# Altium integrated library Altera MAX V.IntLib: 184 symbols (part 4 of 16)
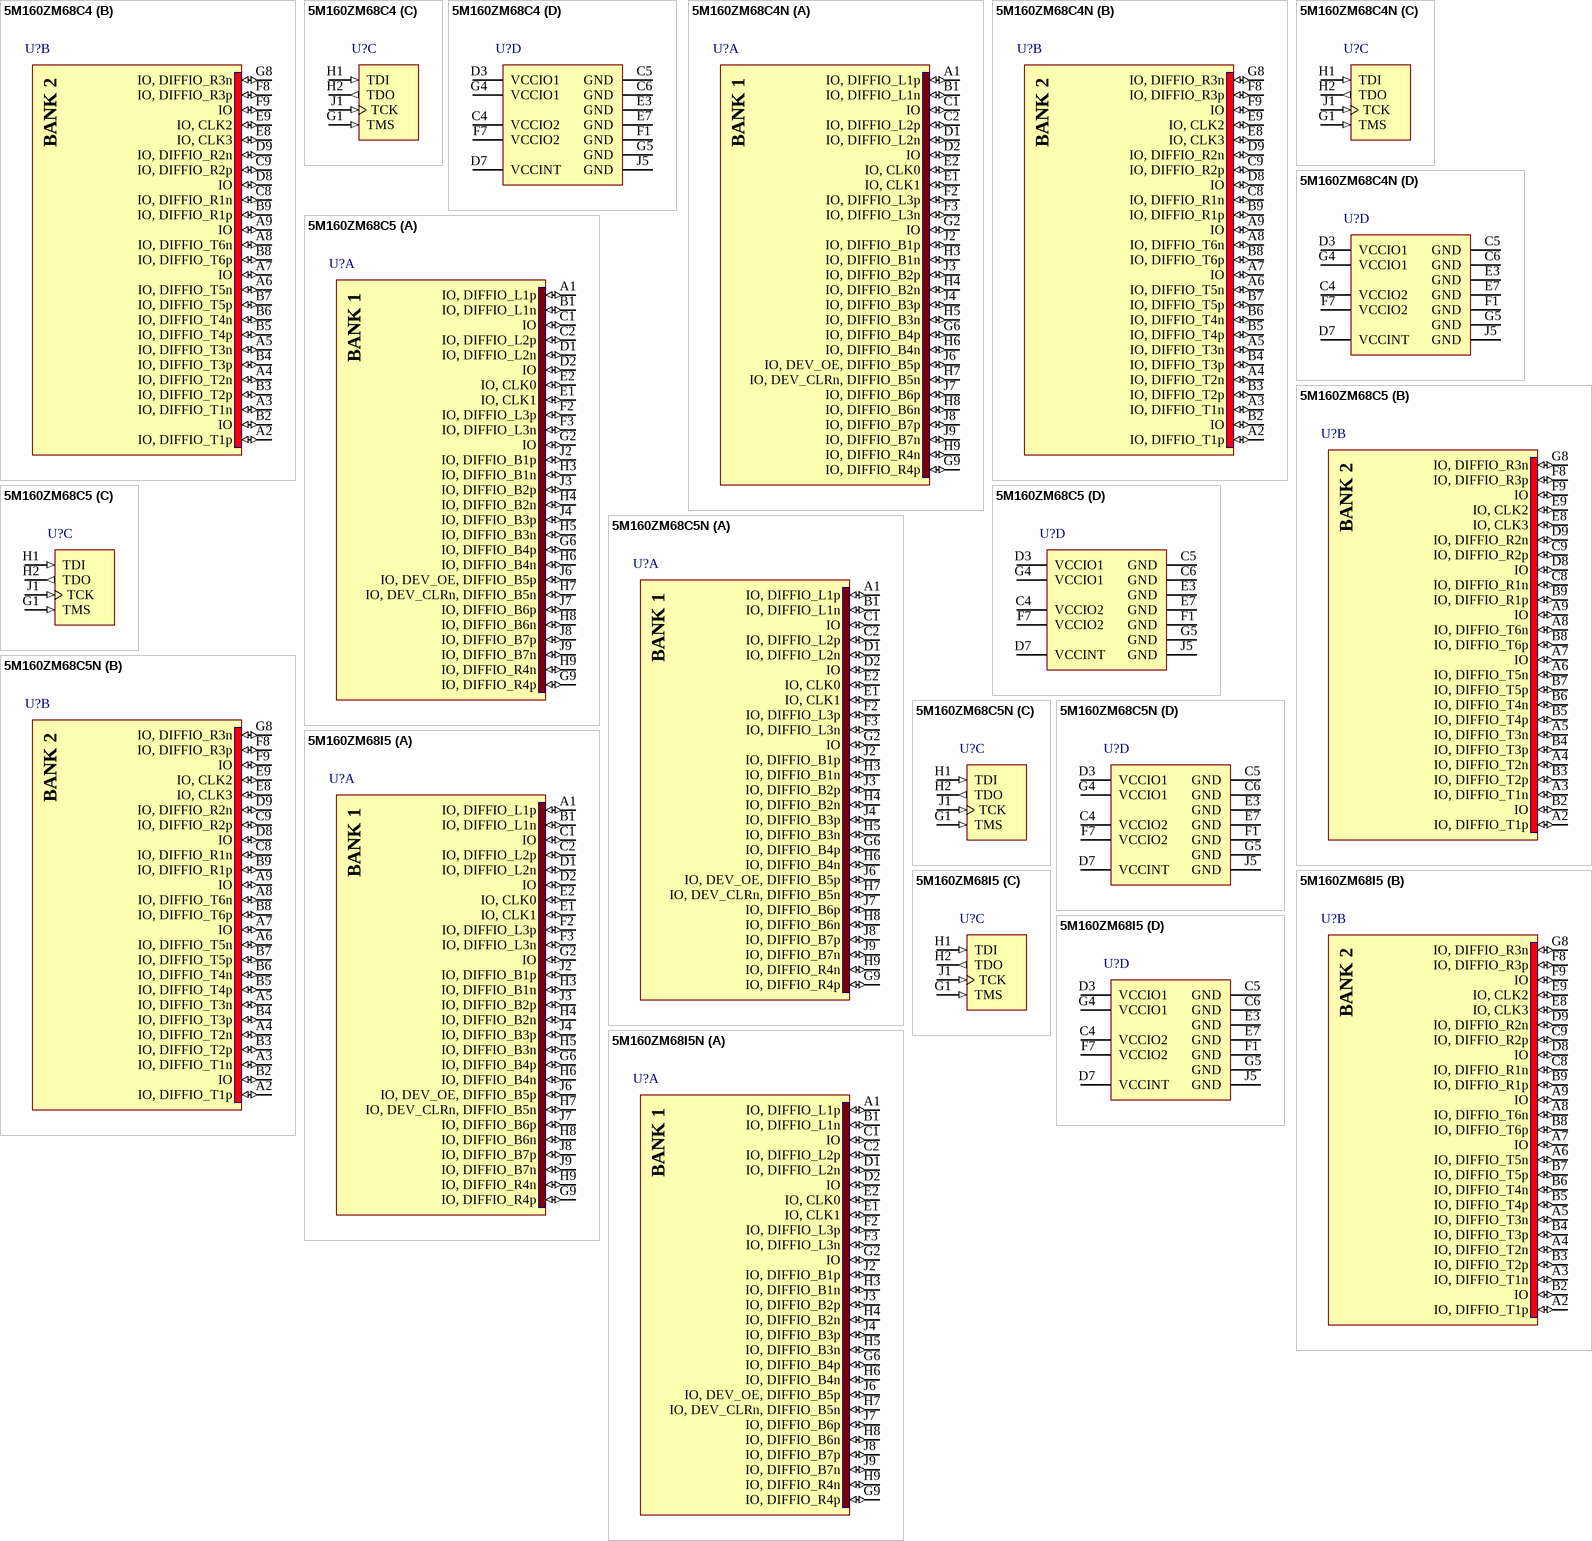
[diagram p80: symbols 5M160ZM68C4 to 5M160ZM68I5N]

## 5M160ZM68C4
designator U?
MAX V 1.8V CPLD, 52 IOs, 160 Logic Elements, 68-Pin MBGA, Commercial Temperature, Speed Grade 4; DatasheetVersion: ver1.2, May-2011; PackageVersion: ver1.0, Jul-2011; PackageReference: MBGA68_A-120; PackageDescription: 68-Pin Micro FineLine Ball-Grid Array (MBGA) - Wire Bond - A:1.20; Code_JEDEC: MO-195-AB; ComponentLink1Description: Manufacturer URL; ComponentLink1URL: http://www.altera.com/; ComponentLink2Description: Datasheet; ComponentLink2URL: http://www.altera.com/literature/hb/max-v/max5_handbook.pdf; ComponentLink3Description: MAX V Device Pin-Out files; ComponentLink3URL: http://www.altera.com/literature/lit-dp.jsp?category=MAX%205&showspreadsheet=y; ComponentLink4Description: Package Specification; ComponentLink4URL: http://www.altera.com/devicepackaging/04R00344-01.pdf
footprint MBGA68_A-120 (BGA, 68-Leads, Body 5x5mm, Pitch 0.5mm, Non-Solder Mask Defined Pads)
part A pins: A1 IO, DIFFIO_L1p (io), B1 IO, DIFFIO_L1n (io), C1 IO (io), C2 IO, DIFFIO_L2p (io), D1 IO, DIFFIO_L2n (io), D2 IO (io), E1 IO, CLK1 (io), E2 IO, CLK0 (io), F2 IO, DIFFIO_L3p (io), F3 IO, DIFFIO_L3n (io), G2 IO (io), G6 IO, DIFFIO_B4p (io), G9 IO, DIFFIO_R4p (io), H3 IO, DIFFIO_B1n (io), H4 IO, DIFFIO_B2n (io), H5 IO, DIFFIO_B3n (io), H6 IO, DIFFIO_B4n (io), H7 IO, DEV_CLRn, DIFFIO_B5n (io), H8 IO, DIFFIO_B6n (io), H9 IO, DIFFIO_R4n (io), J2 IO, DIFFIO_B1p (io), J3 IO, DIFFIO_B2p (io), J4 IO, DIFFIO_B3p (io), J6 IO, DEV_OE, DIFFIO_B5p (io), J7 IO, DIFFIO_B6p (io), J8 IO, DIFFIO_B7p (io), J9 IO, DIFFIO_B7n (io)
part B pins: A2 IO, DIFFIO_T1p (io), A3 IO, DIFFIO_T1n (io), A4 IO, DIFFIO_T2n (io), A5 IO, DIFFIO_T3n (io), A6 IO, DIFFIO_T5n (io), A7 IO (io), A8 IO, DIFFIO_T6n (io), A9 IO (io), B2 IO (io), B3 IO, DIFFIO_T2p (io), B4 IO, DIFFIO_T3p (io), B5 IO, DIFFIO_T4p (io), B6 IO, DIFFIO_T4n (io), B7 IO, DIFFIO_T5p (io), B8 IO, DIFFIO_T6p (io), B9 IO, DIFFIO_R1p (io), C8 IO, DIFFIO_R1n (io), C9 IO, DIFFIO_R2p (io), D8 IO (io), D9 IO, DIFFIO_R2n (io), E8 IO, CLK3 (io), E9 IO, CLK2 (io), F8 IO, DIFFIO_R3p (io), F9 IO (io), G8 IO, DIFFIO_R3n (io)
part C pins: G1 TMS (in), H1 TDI (in), H2 TDO (out), J1 TCK (in)
part D pins: C4 VCCIO2 (power), C5 GND (power), C6 GND (power), D3 VCCIO1 (power), D7 VCCINT (power), E3 GND (power), E7 GND (power), F1 GND (power), F7 VCCIO2 (power), G4 VCCIO1 (power), G5 GND (power), J5 GND (power)
part A text: BANK 1
part B text: BANK 2

## 5M160ZM68C4N
designator U?
MAX V 1.8V CPLD, 52 IOs, 160 Logic Elements, 68-Pin MBGA, Commercial Temperature, Speed Grade 4, Pb-Free; DatasheetVersion: ver1.2, May-2011; PackageVersion: ver1.0, Jul-2011; PackageReference: MBGA68_A-120; PackageDescription: 68-Pin Micro FineLine Ball-Grid Array (MBGA) - Wire Bond - A:1.20; Code_JEDEC: MO-195-AB; ComponentLink1Description: Manufacturer URL; ComponentLink1URL: http://www.altera.com/; ComponentLink2Description: Datasheet; ComponentLink2URL: http://www.altera.com/literature/hb/max-v/max5_handbook.pdf; ComponentLink3Description: MAX V Device Pin-Out files; ComponentLink3URL: http://www.altera.com/literature/lit-dp.jsp?category=MAX%205&showspreadsheet=y; ComponentLink4Description: Package Specification; ComponentLink4URL: http://www.altera.com/devicepackaging/04R00344-01.pdf
footprint MBGA68_A-120 (BGA, 68-Leads, Body 5x5mm, Pitch 0.5mm, Non-Solder Mask Defined Pads)
part A pins: A1 IO, DIFFIO_L1p (io), B1 IO, DIFFIO_L1n (io), C1 IO (io), C2 IO, DIFFIO_L2p (io), D1 IO, DIFFIO_L2n (io), D2 IO (io), E1 IO, CLK1 (io), E2 IO, CLK0 (io), F2 IO, DIFFIO_L3p (io), F3 IO, DIFFIO_L3n (io), G2 IO (io), G6 IO, DIFFIO_B4p (io), G9 IO, DIFFIO_R4p (io), H3 IO, DIFFIO_B1n (io), H4 IO, DIFFIO_B2n (io), H5 IO, DIFFIO_B3n (io), H6 IO, DIFFIO_B4n (io), H7 IO, DEV_CLRn, DIFFIO_B5n (io), H8 IO, DIFFIO_B6n (io), H9 IO, DIFFIO_R4n (io), J2 IO, DIFFIO_B1p (io), J3 IO, DIFFIO_B2p (io), J4 IO, DIFFIO_B3p (io), J6 IO, DEV_OE, DIFFIO_B5p (io), J7 IO, DIFFIO_B6p (io), J8 IO, DIFFIO_B7p (io), J9 IO, DIFFIO_B7n (io)
part B pins: A2 IO, DIFFIO_T1p (io), A3 IO, DIFFIO_T1n (io), A4 IO, DIFFIO_T2n (io), A5 IO, DIFFIO_T3n (io), A6 IO, DIFFIO_T5n (io), A7 IO (io), A8 IO, DIFFIO_T6n (io), A9 IO (io), B2 IO (io), B3 IO, DIFFIO_T2p (io), B4 IO, DIFFIO_T3p (io), B5 IO, DIFFIO_T4p (io), B6 IO, DIFFIO_T4n (io), B7 IO, DIFFIO_T5p (io), B8 IO, DIFFIO_T6p (io), B9 IO, DIFFIO_R1p (io), C8 IO, DIFFIO_R1n (io), C9 IO, DIFFIO_R2p (io), D8 IO (io), D9 IO, DIFFIO_R2n (io), E8 IO, CLK3 (io), E9 IO, CLK2 (io), F8 IO, DIFFIO_R3p (io), F9 IO (io), G8 IO, DIFFIO_R3n (io)
part C pins: G1 TMS (in), H1 TDI (in), H2 TDO (out), J1 TCK (in)
part D pins: C4 VCCIO2 (power), C5 GND (power), C6 GND (power), D3 VCCIO1 (power), D7 VCCINT (power), E3 GND (power), E7 GND (power), F1 GND (power), F7 VCCIO2 (power), G4 VCCIO1 (power), G5 GND (power), J5 GND (power)
part A text: BANK 1
part B text: BANK 2

## 5M160ZM68C5
designator U?
MAX V 1.8V CPLD, 52 IOs, 160 Logic Elements, 68-Pin MBGA, Commercial Temperature, Speed Grade 5; DatasheetVersion: ver1.2, May-2011; PackageVersion: ver1.0, Jul-2011; PackageReference: MBGA68_A-120; PackageDescription: 68-Pin Micro FineLine Ball-Grid Array (MBGA) - Wire Bond - A:1.20; Code_JEDEC: MO-195-AB; ComponentLink1Description: Manufacturer URL; ComponentLink1URL: http://www.altera.com/; ComponentLink2Description: Datasheet; ComponentLink2URL: http://www.altera.com/literature/hb/max-v/max5_handbook.pdf; ComponentLink3Description: MAX V Device Pin-Out files; ComponentLink3URL: http://www.altera.com/literature/lit-dp.jsp?category=MAX%205&showspreadsheet=y; ComponentLink4Description: Package Specification; ComponentLink4URL: http://www.altera.com/devicepackaging/04R00344-01.pdf
footprint MBGA68_A-120 (BGA, 68-Leads, Body 5x5mm, Pitch 0.5mm, Non-Solder Mask Defined Pads)
part A pins: A1 IO, DIFFIO_L1p (io), B1 IO, DIFFIO_L1n (io), C1 IO (io), C2 IO, DIFFIO_L2p (io), D1 IO, DIFFIO_L2n (io), D2 IO (io), E1 IO, CLK1 (io), E2 IO, CLK0 (io), F2 IO, DIFFIO_L3p (io), F3 IO, DIFFIO_L3n (io), G2 IO (io), G6 IO, DIFFIO_B4p (io), G9 IO, DIFFIO_R4p (io), H3 IO, DIFFIO_B1n (io), H4 IO, DIFFIO_B2n (io), H5 IO, DIFFIO_B3n (io), H6 IO, DIFFIO_B4n (io), H7 IO, DEV_CLRn, DIFFIO_B5n (io), H8 IO, DIFFIO_B6n (io), H9 IO, DIFFIO_R4n (io), J2 IO, DIFFIO_B1p (io), J3 IO, DIFFIO_B2p (io), J4 IO, DIFFIO_B3p (io), J6 IO, DEV_OE, DIFFIO_B5p (io), J7 IO, DIFFIO_B6p (io), J8 IO, DIFFIO_B7p (io), J9 IO, DIFFIO_B7n (io)
part B pins: A2 IO, DIFFIO_T1p (io), A3 IO, DIFFIO_T1n (io), A4 IO, DIFFIO_T2n (io), A5 IO, DIFFIO_T3n (io), A6 IO, DIFFIO_T5n (io), A7 IO (io), A8 IO, DIFFIO_T6n (io), A9 IO (io), B2 IO (io), B3 IO, DIFFIO_T2p (io), B4 IO, DIFFIO_T3p (io), B5 IO, DIFFIO_T4p (io), B6 IO, DIFFIO_T4n (io), B7 IO, DIFFIO_T5p (io), B8 IO, DIFFIO_T6p (io), B9 IO, DIFFIO_R1p (io), C8 IO, DIFFIO_R1n (io), C9 IO, DIFFIO_R2p (io), D8 IO (io), D9 IO, DIFFIO_R2n (io), E8 IO, CLK3 (io), E9 IO, CLK2 (io), F8 IO, DIFFIO_R3p (io), F9 IO (io), G8 IO, DIFFIO_R3n (io)
part C pins: G1 TMS (in), H1 TDI (in), H2 TDO (out), J1 TCK (in)
part D pins: C4 VCCIO2 (power), C5 GND (power), C6 GND (power), D3 VCCIO1 (power), D7 VCCINT (power), E3 GND (power), E7 GND (power), F1 GND (power), F7 VCCIO2 (power), G4 VCCIO1 (power), G5 GND (power), J5 GND (power)
part A text: BANK 1
part B text: BANK 2

## 5M160ZM68C5N
designator U?
MAX V 1.8V CPLD, 52 IOs, 160 Logic Elements, 68-Pin MBGA, Commercial Temperature, Speed Grade 5, Pb-Free; DatasheetVersion: ver1.2, May-2011; PackageVersion: ver1.0, Jul-2011; PackageReference: MBGA68_A-120; PackageDescription: 68-Pin Micro FineLine Ball-Grid Array (MBGA) - Wire Bond - A:1.20; Code_JEDEC: MO-195-AB; ComponentLink1Description: Manufacturer URL; ComponentLink1URL: http://www.altera.com/; ComponentLink2Description: Datasheet; ComponentLink2URL: http://www.altera.com/literature/hb/max-v/max5_handbook.pdf; ComponentLink3Description: MAX V Device Pin-Out files; ComponentLink3URL: http://www.altera.com/literature/lit-dp.jsp?category=MAX%205&showspreadsheet=y; ComponentLink4Description: Package Specification; ComponentLink4URL: http://www.altera.com/devicepackaging/04R00344-01.pdf
footprint MBGA68_A-120 (BGA, 68-Leads, Body 5x5mm, Pitch 0.5mm, Non-Solder Mask Defined Pads)
part A pins: A1 IO, DIFFIO_L1p (io), B1 IO, DIFFIO_L1n (io), C1 IO (io), C2 IO, DIFFIO_L2p (io), D1 IO, DIFFIO_L2n (io), D2 IO (io), E1 IO, CLK1 (io), E2 IO, CLK0 (io), F2 IO, DIFFIO_L3p (io), F3 IO, DIFFIO_L3n (io), G2 IO (io), G6 IO, DIFFIO_B4p (io), G9 IO, DIFFIO_R4p (io), H3 IO, DIFFIO_B1n (io), H4 IO, DIFFIO_B2n (io), H5 IO, DIFFIO_B3n (io), H6 IO, DIFFIO_B4n (io), H7 IO, DEV_CLRn, DIFFIO_B5n (io), H8 IO, DIFFIO_B6n (io), H9 IO, DIFFIO_R4n (io), J2 IO, DIFFIO_B1p (io), J3 IO, DIFFIO_B2p (io), J4 IO, DIFFIO_B3p (io), J6 IO, DEV_OE, DIFFIO_B5p (io), J7 IO, DIFFIO_B6p (io), J8 IO, DIFFIO_B7p (io), J9 IO, DIFFIO_B7n (io)
part B pins: A2 IO, DIFFIO_T1p (io), A3 IO, DIFFIO_T1n (io), A4 IO, DIFFIO_T2n (io), A5 IO, DIFFIO_T3n (io), A6 IO, DIFFIO_T5n (io), A7 IO (io), A8 IO, DIFFIO_T6n (io), A9 IO (io), B2 IO (io), B3 IO, DIFFIO_T2p (io), B4 IO, DIFFIO_T3p (io), B5 IO, DIFFIO_T4p (io), B6 IO, DIFFIO_T4n (io), B7 IO, DIFFIO_T5p (io), B8 IO, DIFFIO_T6p (io), B9 IO, DIFFIO_R1p (io), C8 IO, DIFFIO_R1n (io), C9 IO, DIFFIO_R2p (io), D8 IO (io), D9 IO, DIFFIO_R2n (io), E8 IO, CLK3 (io), E9 IO, CLK2 (io), F8 IO, DIFFIO_R3p (io), F9 IO (io), G8 IO, DIFFIO_R3n (io)
part C pins: G1 TMS (in), H1 TDI (in), H2 TDO (out), J1 TCK (in)
part D pins: C4 VCCIO2 (power), C5 GND (power), C6 GND (power), D3 VCCIO1 (power), D7 VCCINT (power), E3 GND (power), E7 GND (power), F1 GND (power), F7 VCCIO2 (power), G4 VCCIO1 (power), G5 GND (power), J5 GND (power)
part A text: BANK 1
part B text: BANK 2

## 5M160ZM68I5
designator U?
MAX V 1.8V CPLD, 52 IOs, 160 Logic Elements, 68-Pin MBGA, Industrial Temperature, Speed Grade 5; DatasheetVersion: ver1.2, May-2011; PackageVersion: ver1.0, Jul-2011; PackageReference: MBGA68_A-120; PackageDescription: 68-Pin Micro FineLine Ball-Grid Array (MBGA) - Wire Bond - A:1.20; Code_JEDEC: MO-195-AB; ComponentLink1Description: Manufacturer URL; ComponentLink1URL: http://www.altera.com/; ComponentLink2Description: Datasheet; ComponentLink2URL: http://www.altera.com/literature/hb/max-v/max5_handbook.pdf; ComponentLink3Description: MAX V Device Pin-Out files; ComponentLink3URL: http://www.altera.com/literature/lit-dp.jsp?category=MAX%205&showspreadsheet=y; ComponentLink4Description: Package Specification; ComponentLink4URL: http://www.altera.com/devicepackaging/04R00344-01.pdf
footprint MBGA68_A-120 (BGA, 68-Leads, Body 5x5mm, Pitch 0.5mm, Non-Solder Mask Defined Pads)
part A pins: A1 IO, DIFFIO_L1p (io), B1 IO, DIFFIO_L1n (io), C1 IO (io), C2 IO, DIFFIO_L2p (io), D1 IO, DIFFIO_L2n (io), D2 IO (io), E1 IO, CLK1 (io), E2 IO, CLK0 (io), F2 IO, DIFFIO_L3p (io), F3 IO, DIFFIO_L3n (io), G2 IO (io), G6 IO, DIFFIO_B4p (io), G9 IO, DIFFIO_R4p (io), H3 IO, DIFFIO_B1n (io), H4 IO, DIFFIO_B2n (io), H5 IO, DIFFIO_B3n (io), H6 IO, DIFFIO_B4n (io), H7 IO, DEV_CLRn, DIFFIO_B5n (io), H8 IO, DIFFIO_B6n (io), H9 IO, DIFFIO_R4n (io), J2 IO, DIFFIO_B1p (io), J3 IO, DIFFIO_B2p (io), J4 IO, DIFFIO_B3p (io), J6 IO, DEV_OE, DIFFIO_B5p (io), J7 IO, DIFFIO_B6p (io), J8 IO, DIFFIO_B7p (io), J9 IO, DIFFIO_B7n (io)
part B pins: A2 IO, DIFFIO_T1p (io), A3 IO, DIFFIO_T1n (io), A4 IO, DIFFIO_T2n (io), A5 IO, DIFFIO_T3n (io), A6 IO, DIFFIO_T5n (io), A7 IO (io), A8 IO, DIFFIO_T6n (io), A9 IO (io), B2 IO (io), B3 IO, DIFFIO_T2p (io), B4 IO, DIFFIO_T3p (io), B5 IO, DIFFIO_T4p (io), B6 IO, DIFFIO_T4n (io), B7 IO, DIFFIO_T5p (io), B8 IO, DIFFIO_T6p (io), B9 IO, DIFFIO_R1p (io), C8 IO, DIFFIO_R1n (io), C9 IO, DIFFIO_R2p (io), D8 IO (io), D9 IO, DIFFIO_R2n (io), E8 IO, CLK3 (io), E9 IO, CLK2 (io), F8 IO, DIFFIO_R3p (io), F9 IO (io), G8 IO, DIFFIO_R3n (io)
part C pins: G1 TMS (in), H1 TDI (in), H2 TDO (out), J1 TCK (in)
part D pins: C4 VCCIO2 (power), C5 GND (power), C6 GND (power), D3 VCCIO1 (power), D7 VCCINT (power), E3 GND (power), E7 GND (power), F1 GND (power), F7 VCCIO2 (power), G4 VCCIO1 (power), G5 GND (power), J5 GND (power)
part A text: BANK 1
part B text: BANK 2

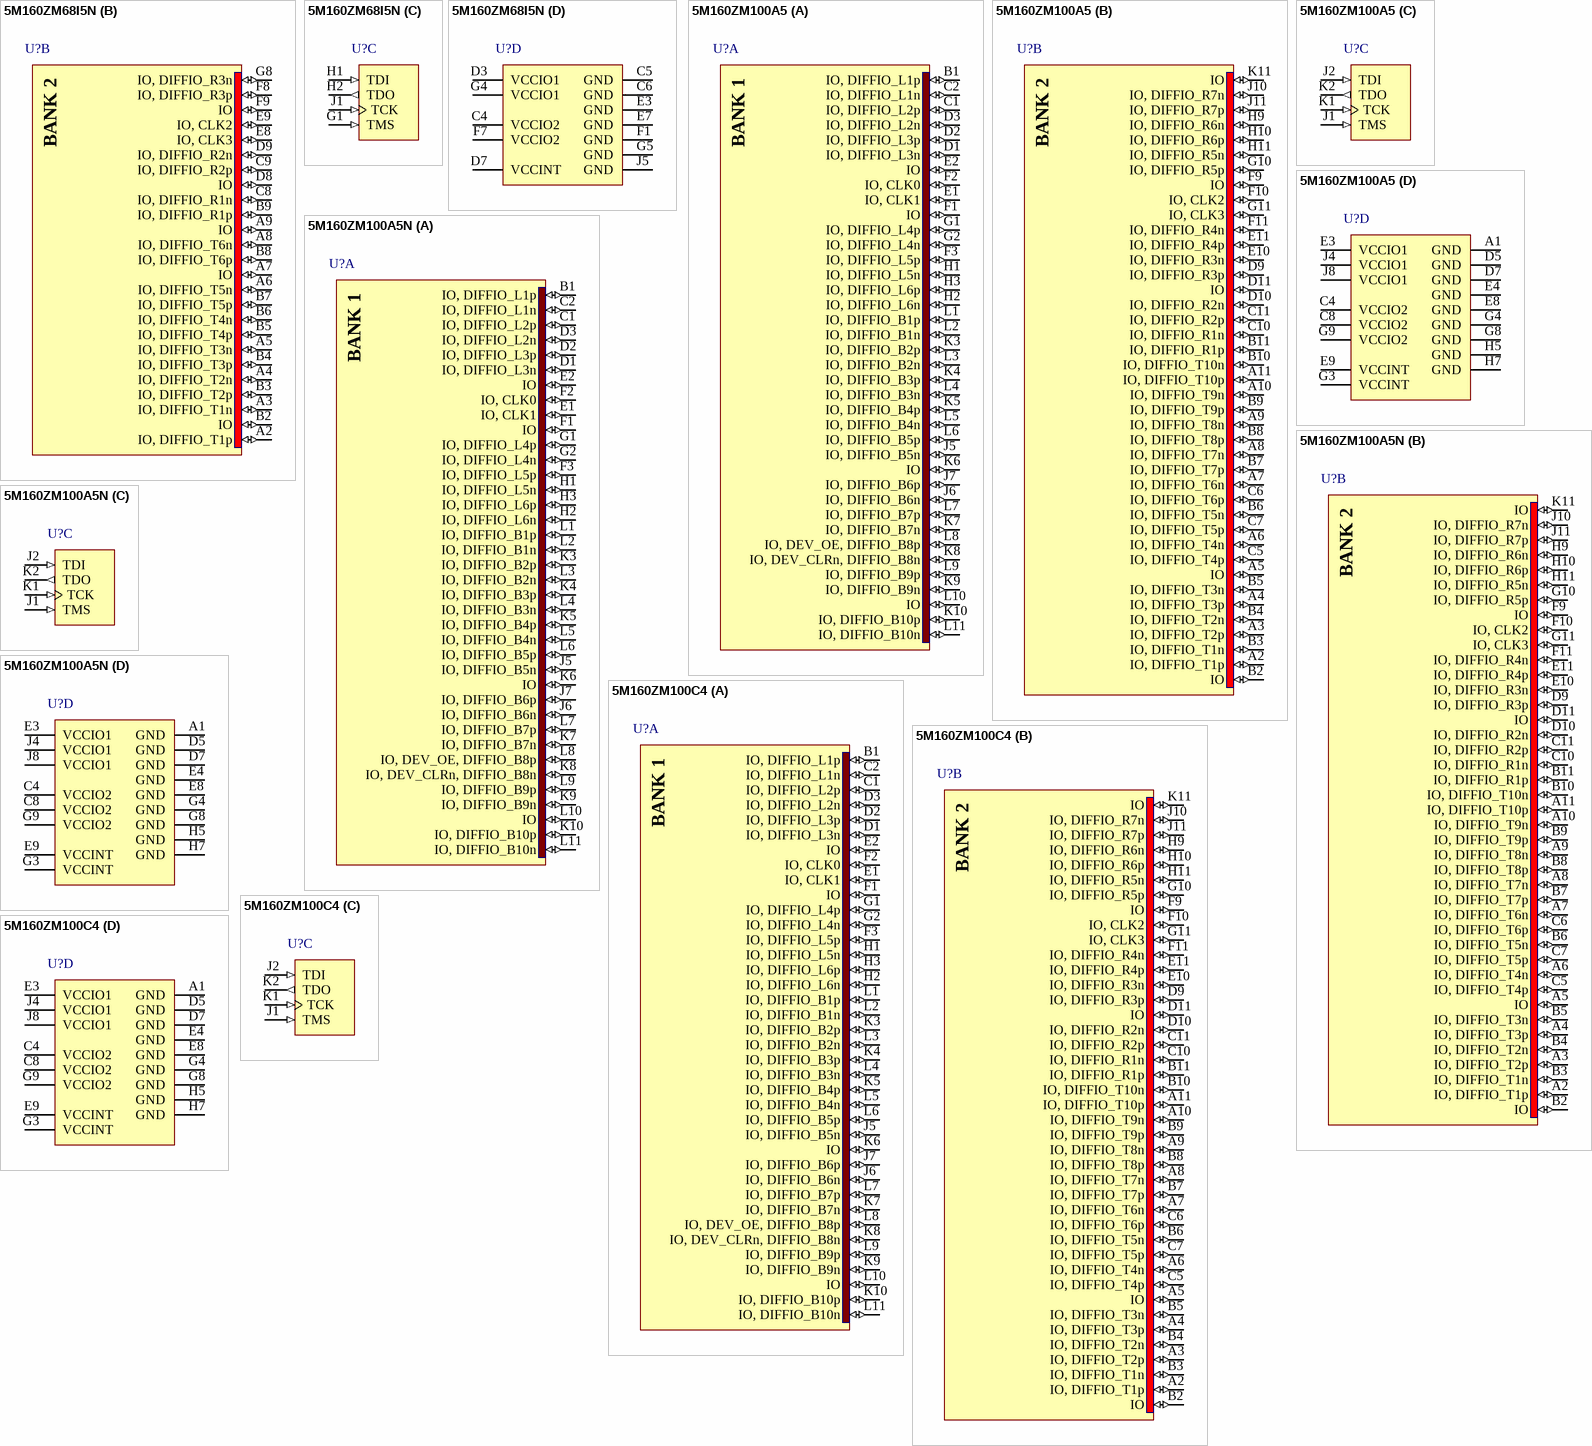
[diagram p14: symbols 5M160ZM68I5N to 5M160ZM100C4]

## 5M160ZM68I5N
designator U?
MAX V 1.8V CPLD, 52 IOs, 160 Logic Elements, 68-Pin MBGA, Industrial Temperature, Speed Grade 5, Pb-Free; DatasheetVersion: ver1.2, May-2011; PackageVersion: ver1.0, Jul-2011; PackageReference: MBGA68_A-120; PackageDescription: 68-Pin Micro FineLine Ball-Grid Array (MBGA) - Wire Bond - A:1.20; Code_JEDEC: MO-195-AB; ComponentLink1Description: Manufacturer URL; ComponentLink1URL: http://www.altera.com/; ComponentLink2Description: Datasheet; ComponentLink2URL: http://www.altera.com/literature/hb/max-v/max5_handbook.pdf; ComponentLink3Description: MAX V Device Pin-Out files; ComponentLink3URL: http://www.altera.com/literature/lit-dp.jsp?category=MAX%205&showspreadsheet=y; ComponentLink4Description: Package Specification; ComponentLink4URL: http://www.altera.com/devicepackaging/04R00344-01.pdf
footprint MBGA68_A-120 (BGA, 68-Leads, Body 5x5mm, Pitch 0.5mm, Non-Solder Mask Defined Pads)
part A pins: A1 IO, DIFFIO_L1p (io), B1 IO, DIFFIO_L1n (io), C1 IO (io), C2 IO, DIFFIO_L2p (io), D1 IO, DIFFIO_L2n (io), D2 IO (io), E1 IO, CLK1 (io), E2 IO, CLK0 (io), F2 IO, DIFFIO_L3p (io), F3 IO, DIFFIO_L3n (io), G2 IO (io), G6 IO, DIFFIO_B4p (io), G9 IO, DIFFIO_R4p (io), H3 IO, DIFFIO_B1n (io), H4 IO, DIFFIO_B2n (io), H5 IO, DIFFIO_B3n (io), H6 IO, DIFFIO_B4n (io), H7 IO, DEV_CLRn, DIFFIO_B5n (io), H8 IO, DIFFIO_B6n (io), H9 IO, DIFFIO_R4n (io), J2 IO, DIFFIO_B1p (io), J3 IO, DIFFIO_B2p (io), J4 IO, DIFFIO_B3p (io), J6 IO, DEV_OE, DIFFIO_B5p (io), J7 IO, DIFFIO_B6p (io), J8 IO, DIFFIO_B7p (io), J9 IO, DIFFIO_B7n (io)
part B pins: A2 IO, DIFFIO_T1p (io), A3 IO, DIFFIO_T1n (io), A4 IO, DIFFIO_T2n (io), A5 IO, DIFFIO_T3n (io), A6 IO, DIFFIO_T5n (io), A7 IO (io), A8 IO, DIFFIO_T6n (io), A9 IO (io), B2 IO (io), B3 IO, DIFFIO_T2p (io), B4 IO, DIFFIO_T3p (io), B5 IO, DIFFIO_T4p (io), B6 IO, DIFFIO_T4n (io), B7 IO, DIFFIO_T5p (io), B8 IO, DIFFIO_T6p (io), B9 IO, DIFFIO_R1p (io), C8 IO, DIFFIO_R1n (io), C9 IO, DIFFIO_R2p (io), D8 IO (io), D9 IO, DIFFIO_R2n (io), E8 IO, CLK3 (io), E9 IO, CLK2 (io), F8 IO, DIFFIO_R3p (io), F9 IO (io), G8 IO, DIFFIO_R3n (io)
part C pins: G1 TMS (in), H1 TDI (in), H2 TDO (out), J1 TCK (in)
part D pins: C4 VCCIO2 (power), C5 GND (power), C6 GND (power), D3 VCCIO1 (power), D7 VCCINT (power), E3 GND (power), E7 GND (power), F1 GND (power), F7 VCCIO2 (power), G4 VCCIO1 (power), G5 GND (power), J5 GND (power)
part A text: BANK 1
part B text: BANK 2

## 5M160ZM100A5
designator U?
MAX V 1.8V CPLD, 79 IOs, 160 Logic Elements, 100-Pin MBGA, Automotive Temperature, Speed Grade 5; DatasheetVersion: ver1.2, May-2011; PackageVersion: ver1.0, Jul-2011; PackageReference: MBGA100_A-120; PackageDescription: 100-Pin Micro FineLine Ball-Grid Array (MBGA100) - Wire Bond - A:1.20; Code_JEDEC: MO-195-AC; ComponentLink1Description: Manufacturer URL; ComponentLink1URL: http://www.altera.com/; ComponentLink2Description: Datasheet; ComponentLink2URL: http://www.altera.com/literature/hb/max-v/max5_handbook.pdf; ComponentLink3Description: MAX V Device Pin-Out files; ComponentLink3URL: http://www.altera.com/literature/lit-dp.jsp?category=MAX%205&showspreadsheet=y; ComponentLink4Description: Package Specification; ComponentLink4URL: http://www.altera.com/devicepackaging/04R00345-01.pdf
footprint MBGA100_A-120 (BGA, 100-Leads, Body 6x6mm, Pitch 0.5mm)
part A pins: B1 IO, DIFFIO_L1p (io), C1 IO, DIFFIO_L2p (io), C2 IO, DIFFIO_L1n (io), D1 IO, DIFFIO_L3n (io), D2 IO, DIFFIO_L3p (io), D3 IO, DIFFIO_L2n (io), E1 IO, CLK1 (io), E2 IO (io), F1 IO (io), F2 IO, CLK0 (io), F3 IO, DIFFIO_L5p (io), G1 IO, DIFFIO_L4p (io), G2 IO, DIFFIO_L4n (io), H1 IO, DIFFIO_L5n (io), H2 IO, DIFFIO_L6n (io), H3 IO, DIFFIO_L6p (io), J5 IO, DIFFIO_B5n (io), J6 IO, DIFFIO_B6n (io), J7 IO, DIFFIO_B6p (io), K3 IO, DIFFIO_B2p (io), K4 IO, DIFFIO_B3p (io), K5 IO, DIFFIO_B4p (io), K6 IO (io), K7 IO, DIFFIO_B7n (io), K8 IO, DEV_CLRn, DIFFIO_B8n (io), K9 IO, DIFFIO_B9n (io), K10 IO, DIFFIO_B10p (io), L1 IO, DIFFIO_B1p (io), L2 IO, DIFFIO_B1n (io), L3 IO, DIFFIO_B2n (io), L4 IO, DIFFIO_B3n (io), L5 IO, DIFFIO_B4n (io), L6 IO, DIFFIO_B5p (io), L7 IO, DIFFIO_B7p (io), L8 IO, DEV_OE, DIFFIO_B8p (io), L9 IO, DIFFIO_B9p (io), L10 IO (io), L11 IO, DIFFIO_B10n (io)
part B pins: A2 IO, DIFFIO_T1p (io), A3 IO, DIFFIO_T2p (io), A4 IO, DIFFIO_T3p (io), A5 IO (io), A6 IO, DIFFIO_T4n (io), A7 IO, DIFFIO_T6n (io), A8 IO, DIFFIO_T7n (io), A9 IO, DIFFIO_T8n (io), A10 IO, DIFFIO_T9n (io), A11 IO, DIFFIO_T10p (io), B2 IO (io), B3 IO, DIFFIO_T1n (io), B4 IO, DIFFIO_T2n (io), B5 IO, DIFFIO_T3n (io), B6 IO, DIFFIO_T5n (io), B7 IO, DIFFIO_T7p (io), B8 IO, DIFFIO_T8p (io), B9 IO, DIFFIO_T9p (io), B10 IO, DIFFIO_T10n (io), B11 IO, DIFFIO_R1p (io), C5 IO, DIFFIO_T4p (io), C6 IO, DIFFIO_T6p (io), C7 IO, DIFFIO_T5p (io), C10 IO, DIFFIO_R1n (io), C11 IO, DIFFIO_R2p (io), D9 IO, DIFFIO_R3p (io), D10 IO, DIFFIO_R2n (io), D11 IO (io), E10 IO, DIFFIO_R3n (io), E11 IO, DIFFIO_R4p (io), F9 IO (io), F10 IO, CLK2 (io), F11 IO, DIFFIO_R4n (io), G10 IO, DIFFIO_R5p (io), G11 IO, CLK3 (io), H9 IO, DIFFIO_R6n (io), H10 IO, DIFFIO_R6p (io), H11 IO, DIFFIO_R5n (io), J10 IO, DIFFIO_R7n (io), J11 IO, DIFFIO_R7p (io), K11 IO (io)
part C pins: J1 TMS (in), J2 TDI (in), K1 TCK (in), K2 TDO (out)
part D pins: A1 GND (power), C4 VCCIO2 (power), C8 VCCIO2 (power), D5 GND (power), D7 GND (power), E3 VCCIO1 (power), E4 GND (power), E8 GND (power), E9 VCCINT (power), G3 VCCINT (power), G4 GND (power), G8 GND (power), G9 VCCIO2 (power), H5 GND (power), H7 GND (power), J4 VCCIO1 (power), J8 VCCIO1 (power)
part A text: BANK 1
part B text: BANK 2

## 5M160ZM100A5N
designator U?
MAX V 1.8V CPLD, 79 IOs, 160 Logic Elements, 100-Pin MBGA, Automotive Temperature, Speed Grade 5, Pb-Free; DatasheetVersion: ver1.2, May-2011; PackageVersion: ver1.0, Jul-2011; PackageReference: MBGA100_A-120; PackageDescription: 100-Pin Micro FineLine Ball-Grid Array (MBGA100) - Wire Bond - A:1.20; Code_JEDEC: MO-195-AC; ComponentLink1Description: Manufacturer URL; ComponentLink1URL: http://www.altera.com/; ComponentLink2Description: Datasheet; ComponentLink2URL: http://www.altera.com/literature/hb/max-v/max5_handbook.pdf; ComponentLink3Description: MAX V Device Pin-Out files; ComponentLink3URL: http://www.altera.com/literature/lit-dp.jsp?category=MAX%205&showspreadsheet=y; ComponentLink4Description: Package Specification; ComponentLink4URL: http://www.altera.com/devicepackaging/04R00345-01.pdf
footprint MBGA100_A-120 (BGA, 100-Leads, Body 6x6mm, Pitch 0.5mm)
part A pins: B1 IO, DIFFIO_L1p (io), C1 IO, DIFFIO_L2p (io), C2 IO, DIFFIO_L1n (io), D1 IO, DIFFIO_L3n (io), D2 IO, DIFFIO_L3p (io), D3 IO, DIFFIO_L2n (io), E1 IO, CLK1 (io), E2 IO (io), F1 IO (io), F2 IO, CLK0 (io), F3 IO, DIFFIO_L5p (io), G1 IO, DIFFIO_L4p (io), G2 IO, DIFFIO_L4n (io), H1 IO, DIFFIO_L5n (io), H2 IO, DIFFIO_L6n (io), H3 IO, DIFFIO_L6p (io), J5 IO, DIFFIO_B5n (io), J6 IO, DIFFIO_B6n (io), J7 IO, DIFFIO_B6p (io), K3 IO, DIFFIO_B2p (io), K4 IO, DIFFIO_B3p (io), K5 IO, DIFFIO_B4p (io), K6 IO (io), K7 IO, DIFFIO_B7n (io), K8 IO, DEV_CLRn, DIFFIO_B8n (io), K9 IO, DIFFIO_B9n (io), K10 IO, DIFFIO_B10p (io), L1 IO, DIFFIO_B1p (io), L2 IO, DIFFIO_B1n (io), L3 IO, DIFFIO_B2n (io), L4 IO, DIFFIO_B3n (io), L5 IO, DIFFIO_B4n (io), L6 IO, DIFFIO_B5p (io), L7 IO, DIFFIO_B7p (io), L8 IO, DEV_OE, DIFFIO_B8p (io), L9 IO, DIFFIO_B9p (io), L10 IO (io), L11 IO, DIFFIO_B10n (io)
part B pins: A2 IO, DIFFIO_T1p (io), A3 IO, DIFFIO_T2p (io), A4 IO, DIFFIO_T3p (io), A5 IO (io), A6 IO, DIFFIO_T4n (io), A7 IO, DIFFIO_T6n (io), A8 IO, DIFFIO_T7n (io), A9 IO, DIFFIO_T8n (io), A10 IO, DIFFIO_T9n (io), A11 IO, DIFFIO_T10p (io), B2 IO (io), B3 IO, DIFFIO_T1n (io), B4 IO, DIFFIO_T2n (io), B5 IO, DIFFIO_T3n (io), B6 IO, DIFFIO_T5n (io), B7 IO, DIFFIO_T7p (io), B8 IO, DIFFIO_T8p (io), B9 IO, DIFFIO_T9p (io), B10 IO, DIFFIO_T10n (io), B11 IO, DIFFIO_R1p (io), C5 IO, DIFFIO_T4p (io), C6 IO, DIFFIO_T6p (io), C7 IO, DIFFIO_T5p (io), C10 IO, DIFFIO_R1n (io), C11 IO, DIFFIO_R2p (io), D9 IO, DIFFIO_R3p (io), D10 IO, DIFFIO_R2n (io), D11 IO (io), E10 IO, DIFFIO_R3n (io), E11 IO, DIFFIO_R4p (io), F9 IO (io), F10 IO, CLK2 (io), F11 IO, DIFFIO_R4n (io), G10 IO, DIFFIO_R5p (io), G11 IO, CLK3 (io), H9 IO, DIFFIO_R6n (io), H10 IO, DIFFIO_R6p (io), H11 IO, DIFFIO_R5n (io), J10 IO, DIFFIO_R7n (io), J11 IO, DIFFIO_R7p (io), K11 IO (io)
part C pins: J1 TMS (in), J2 TDI (in), K1 TCK (in), K2 TDO (out)
part D pins: A1 GND (power), C4 VCCIO2 (power), C8 VCCIO2 (power), D5 GND (power), D7 GND (power), E3 VCCIO1 (power), E4 GND (power), E8 GND (power), E9 VCCINT (power), G3 VCCINT (power), G4 GND (power), G8 GND (power), G9 VCCIO2 (power), H5 GND (power), H7 GND (power), J4 VCCIO1 (power), J8 VCCIO1 (power)
part A text: BANK 1
part B text: BANK 2

## 5M160ZM100C4
designator U?
MAX V 1.8V CPLD, 79 IOs, 160 Logic Elements, 100-Pin MBGA, Commercial Temperature, Speed Grade 4; DatasheetVersion: ver1.2, May-2011; PackageVersion: ver1.0, Jul-2011; PackageReference: MBGA100_A-120; PackageDescription: 100-Pin Micro FineLine Ball-Grid Array (MBGA100) - Wire Bond - A:1.20; Code_JEDEC: MO-195-AC; ComponentLink1Description: Manufacturer URL; ComponentLink1URL: http://www.altera.com/; ComponentLink2Description: Datasheet; ComponentLink2URL: http://www.altera.com/literature/hb/max-v/max5_handbook.pdf; ComponentLink3Description: MAX V Device Pin-Out files; ComponentLink3URL: http://www.altera.com/literature/lit-dp.jsp?category=MAX%205&showspreadsheet=y; ComponentLink4Description: Package Specification; ComponentLink4URL: http://www.altera.com/devicepackaging/04R00345-01.pdf
footprint MBGA100_A-120 (BGA, 100-Leads, Body 6x6mm, Pitch 0.5mm)
part A pins: B1 IO, DIFFIO_L1p (io), C1 IO, DIFFIO_L2p (io), C2 IO, DIFFIO_L1n (io), D1 IO, DIFFIO_L3n (io), D2 IO, DIFFIO_L3p (io), D3 IO, DIFFIO_L2n (io), E1 IO, CLK1 (io), E2 IO (io), F1 IO (io), F2 IO, CLK0 (io), F3 IO, DIFFIO_L5p (io), G1 IO, DIFFIO_L4p (io), G2 IO, DIFFIO_L4n (io), H1 IO, DIFFIO_L5n (io), H2 IO, DIFFIO_L6n (io), H3 IO, DIFFIO_L6p (io), J5 IO, DIFFIO_B5n (io), J6 IO, DIFFIO_B6n (io), J7 IO, DIFFIO_B6p (io), K3 IO, DIFFIO_B2p (io), K4 IO, DIFFIO_B3p (io), K5 IO, DIFFIO_B4p (io), K6 IO (io), K7 IO, DIFFIO_B7n (io), K8 IO, DEV_CLRn, DIFFIO_B8n (io), K9 IO, DIFFIO_B9n (io), K10 IO, DIFFIO_B10p (io), L1 IO, DIFFIO_B1p (io), L2 IO, DIFFIO_B1n (io), L3 IO, DIFFIO_B2n (io), L4 IO, DIFFIO_B3n (io), L5 IO, DIFFIO_B4n (io), L6 IO, DIFFIO_B5p (io), L7 IO, DIFFIO_B7p (io), L8 IO, DEV_OE, DIFFIO_B8p (io), L9 IO, DIFFIO_B9p (io), L10 IO (io), L11 IO, DIFFIO_B10n (io)
part B pins: A2 IO, DIFFIO_T1p (io), A3 IO, DIFFIO_T2p (io), A4 IO, DIFFIO_T3p (io), A5 IO (io), A6 IO, DIFFIO_T4n (io), A7 IO, DIFFIO_T6n (io), A8 IO, DIFFIO_T7n (io), A9 IO, DIFFIO_T8n (io), A10 IO, DIFFIO_T9n (io), A11 IO, DIFFIO_T10p (io), B2 IO (io), B3 IO, DIFFIO_T1n (io), B4 IO, DIFFIO_T2n (io), B5 IO, DIFFIO_T3n (io), B6 IO, DIFFIO_T5n (io), B7 IO, DIFFIO_T7p (io), B8 IO, DIFFIO_T8p (io), B9 IO, DIFFIO_T9p (io), B10 IO, DIFFIO_T10n (io), B11 IO, DIFFIO_R1p (io), C5 IO, DIFFIO_T4p (io), C6 IO, DIFFIO_T6p (io), C7 IO, DIFFIO_T5p (io), C10 IO, DIFFIO_R1n (io), C11 IO, DIFFIO_R2p (io), D9 IO, DIFFIO_R3p (io), D10 IO, DIFFIO_R2n (io), D11 IO (io), E10 IO, DIFFIO_R3n (io), E11 IO, DIFFIO_R4p (io), F9 IO (io), F10 IO, CLK2 (io), F11 IO, DIFFIO_R4n (io), G10 IO, DIFFIO_R5p (io), G11 IO, CLK3 (io), H9 IO, DIFFIO_R6n (io), H10 IO, DIFFIO_R6p (io), H11 IO, DIFFIO_R5n (io), J10 IO, DIFFIO_R7n (io), J11 IO, DIFFIO_R7p (io), K11 IO (io)
part C pins: J1 TMS (in), J2 TDI (in), K1 TCK (in), K2 TDO (out)
part D pins: A1 GND (power), C4 VCCIO2 (power), C8 VCCIO2 (power), D5 GND (power), D7 GND (power), E3 VCCIO1 (power), E4 GND (power), E8 GND (power), E9 VCCINT (power), G3 VCCINT (power), G4 GND (power), G8 GND (power), G9 VCCIO2 (power), H5 GND (power), H7 GND (power), J4 VCCIO1 (power), J8 VCCIO1 (power)
part A text: BANK 1
part B text: BANK 2

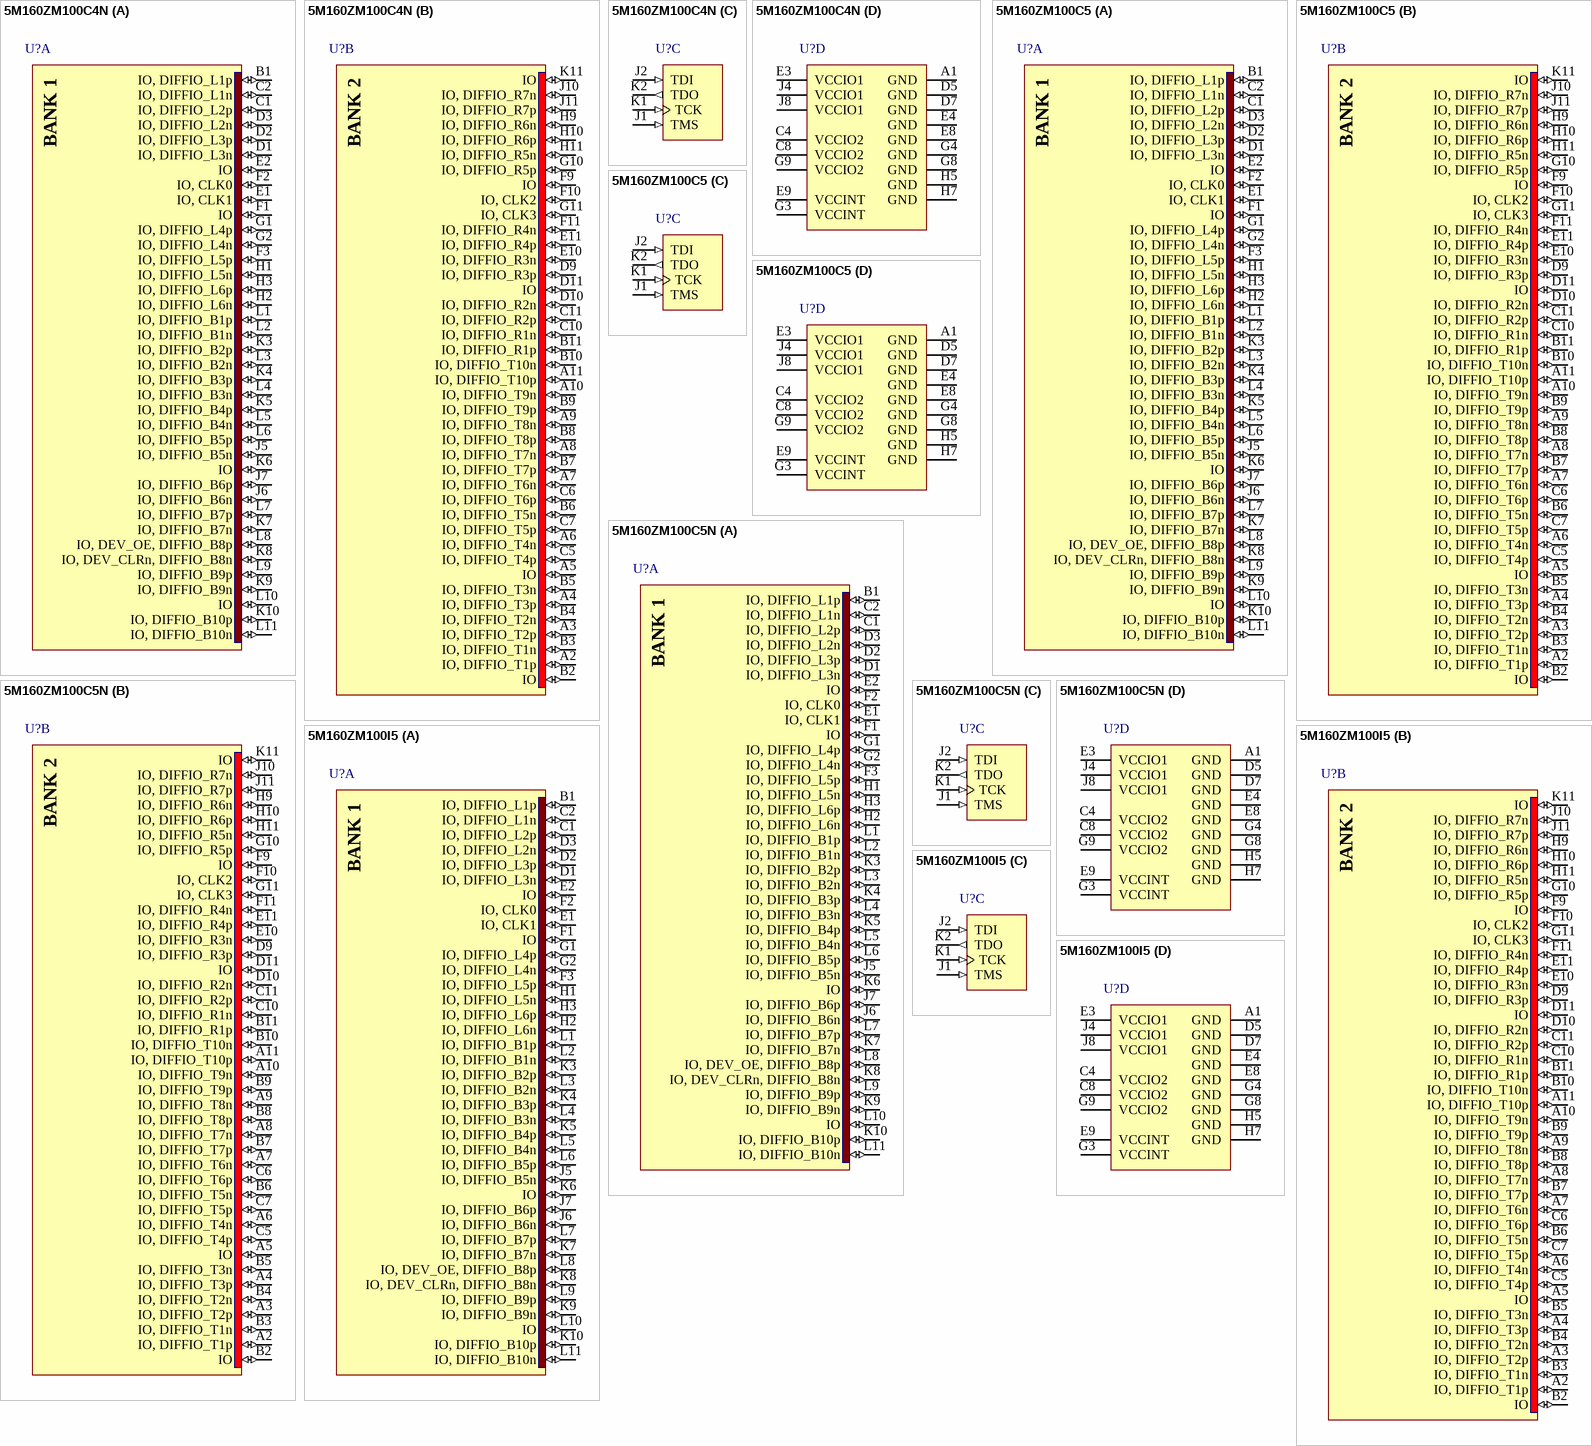
[diagram p15: symbols 5M160ZM100C4N to 5M160ZM100I5]

## 5M160ZM100C4N
designator U?
MAX V 1.8V CPLD, 79 IOs, 160 Logic Elements, 100-Pin MBGA, Commercial Temperature, Speed Grade 4, Pb-Free; DatasheetVersion: ver1.2, May-2011; PackageVersion: ver1.0, Jul-2011; PackageReference: MBGA100_A-120; PackageDescription: 100-Pin Micro FineLine Ball-Grid Array (MBGA100) - Wire Bond - A:1.20; Code_JEDEC: MO-195-AC; ComponentLink1Description: Manufacturer URL; ComponentLink1URL: http://www.altera.com/; ComponentLink2Description: Datasheet; ComponentLink2URL: http://www.altera.com/literature/hb/max-v/max5_handbook.pdf; ComponentLink3Description: MAX V Device Pin-Out files; ComponentLink3URL: http://www.altera.com/literature/lit-dp.jsp?category=MAX%205&showspreadsheet=y; ComponentLink4Description: Package Specification; ComponentLink4URL: http://www.altera.com/devicepackaging/04R00345-01.pdf
footprint MBGA100_A-120 (BGA, 100-Leads, Body 6x6mm, Pitch 0.5mm)
part A pins: B1 IO, DIFFIO_L1p (io), C1 IO, DIFFIO_L2p (io), C2 IO, DIFFIO_L1n (io), D1 IO, DIFFIO_L3n (io), D2 IO, DIFFIO_L3p (io), D3 IO, DIFFIO_L2n (io), E1 IO, CLK1 (io), E2 IO (io), F1 IO (io), F2 IO, CLK0 (io), F3 IO, DIFFIO_L5p (io), G1 IO, DIFFIO_L4p (io), G2 IO, DIFFIO_L4n (io), H1 IO, DIFFIO_L5n (io), H2 IO, DIFFIO_L6n (io), H3 IO, DIFFIO_L6p (io), J5 IO, DIFFIO_B5n (io), J6 IO, DIFFIO_B6n (io), J7 IO, DIFFIO_B6p (io), K3 IO, DIFFIO_B2p (io), K4 IO, DIFFIO_B3p (io), K5 IO, DIFFIO_B4p (io), K6 IO (io), K7 IO, DIFFIO_B7n (io), K8 IO, DEV_CLRn, DIFFIO_B8n (io), K9 IO, DIFFIO_B9n (io), K10 IO, DIFFIO_B10p (io), L1 IO, DIFFIO_B1p (io), L2 IO, DIFFIO_B1n (io), L3 IO, DIFFIO_B2n (io), L4 IO, DIFFIO_B3n (io), L5 IO, DIFFIO_B4n (io), L6 IO, DIFFIO_B5p (io), L7 IO, DIFFIO_B7p (io), L8 IO, DEV_OE, DIFFIO_B8p (io), L9 IO, DIFFIO_B9p (io), L10 IO (io), L11 IO, DIFFIO_B10n (io)
part B pins: A2 IO, DIFFIO_T1p (io), A3 IO, DIFFIO_T2p (io), A4 IO, DIFFIO_T3p (io), A5 IO (io), A6 IO, DIFFIO_T4n (io), A7 IO, DIFFIO_T6n (io), A8 IO, DIFFIO_T7n (io), A9 IO, DIFFIO_T8n (io), A10 IO, DIFFIO_T9n (io), A11 IO, DIFFIO_T10p (io), B2 IO (io), B3 IO, DIFFIO_T1n (io), B4 IO, DIFFIO_T2n (io), B5 IO, DIFFIO_T3n (io), B6 IO, DIFFIO_T5n (io), B7 IO, DIFFIO_T7p (io), B8 IO, DIFFIO_T8p (io), B9 IO, DIFFIO_T9p (io), B10 IO, DIFFIO_T10n (io), B11 IO, DIFFIO_R1p (io), C5 IO, DIFFIO_T4p (io), C6 IO, DIFFIO_T6p (io), C7 IO, DIFFIO_T5p (io), C10 IO, DIFFIO_R1n (io), C11 IO, DIFFIO_R2p (io), D9 IO, DIFFIO_R3p (io), D10 IO, DIFFIO_R2n (io), D11 IO (io), E10 IO, DIFFIO_R3n (io), E11 IO, DIFFIO_R4p (io), F9 IO (io), F10 IO, CLK2 (io), F11 IO, DIFFIO_R4n (io), G10 IO, DIFFIO_R5p (io), G11 IO, CLK3 (io), H9 IO, DIFFIO_R6n (io), H10 IO, DIFFIO_R6p (io), H11 IO, DIFFIO_R5n (io), J10 IO, DIFFIO_R7n (io), J11 IO, DIFFIO_R7p (io), K11 IO (io)
part C pins: J1 TMS (in), J2 TDI (in), K1 TCK (in), K2 TDO (out)
part D pins: A1 GND (power), C4 VCCIO2 (power), C8 VCCIO2 (power), D5 GND (power), D7 GND (power), E3 VCCIO1 (power), E4 GND (power), E8 GND (power), E9 VCCINT (power), G3 VCCINT (power), G4 GND (power), G8 GND (power), G9 VCCIO2 (power), H5 GND (power), H7 GND (power), J4 VCCIO1 (power), J8 VCCIO1 (power)
part A text: BANK 1
part B text: BANK 2

## 5M160ZM100C5
designator U?
MAX V 1.8V CPLD, 79 IOs, 160 Logic Elements, 100-Pin MBGA, Commercial Temperature, Speed Grade 5; DatasheetVersion: ver1.2, May-2011; PackageVersion: ver1.0, Jul-2011; PackageReference: MBGA100_A-120; PackageDescription: 100-Pin Micro FineLine Ball-Grid Array (MBGA100) - Wire Bond - A:1.20; Code_JEDEC: MO-195-AC; ComponentLink1Description: Manufacturer URL; ComponentLink1URL: http://www.altera.com/; ComponentLink2Description: Datasheet; ComponentLink2URL: http://www.altera.com/literature/hb/max-v/max5_handbook.pdf; ComponentLink3Description: MAX V Device Pin-Out files; ComponentLink3URL: http://www.altera.com/literature/lit-dp.jsp?category=MAX%205&showspreadsheet=y; ComponentLink4Description: Package Specification; ComponentLink4URL: http://www.altera.com/devicepackaging/04R00345-01.pdf
footprint MBGA100_A-120 (BGA, 100-Leads, Body 6x6mm, Pitch 0.5mm)
part A pins: B1 IO, DIFFIO_L1p (io), C1 IO, DIFFIO_L2p (io), C2 IO, DIFFIO_L1n (io), D1 IO, DIFFIO_L3n (io), D2 IO, DIFFIO_L3p (io), D3 IO, DIFFIO_L2n (io), E1 IO, CLK1 (io), E2 IO (io), F1 IO (io), F2 IO, CLK0 (io), F3 IO, DIFFIO_L5p (io), G1 IO, DIFFIO_L4p (io), G2 IO, DIFFIO_L4n (io), H1 IO, DIFFIO_L5n (io), H2 IO, DIFFIO_L6n (io), H3 IO, DIFFIO_L6p (io), J5 IO, DIFFIO_B5n (io), J6 IO, DIFFIO_B6n (io), J7 IO, DIFFIO_B6p (io), K3 IO, DIFFIO_B2p (io), K4 IO, DIFFIO_B3p (io), K5 IO, DIFFIO_B4p (io), K6 IO (io), K7 IO, DIFFIO_B7n (io), K8 IO, DEV_CLRn, DIFFIO_B8n (io), K9 IO, DIFFIO_B9n (io), K10 IO, DIFFIO_B10p (io), L1 IO, DIFFIO_B1p (io), L2 IO, DIFFIO_B1n (io), L3 IO, DIFFIO_B2n (io), L4 IO, DIFFIO_B3n (io), L5 IO, DIFFIO_B4n (io), L6 IO, DIFFIO_B5p (io), L7 IO, DIFFIO_B7p (io), L8 IO, DEV_OE, DIFFIO_B8p (io), L9 IO, DIFFIO_B9p (io), L10 IO (io), L11 IO, DIFFIO_B10n (io)
part B pins: A2 IO, DIFFIO_T1p (io), A3 IO, DIFFIO_T2p (io), A4 IO, DIFFIO_T3p (io), A5 IO (io), A6 IO, DIFFIO_T4n (io), A7 IO, DIFFIO_T6n (io), A8 IO, DIFFIO_T7n (io), A9 IO, DIFFIO_T8n (io), A10 IO, DIFFIO_T9n (io), A11 IO, DIFFIO_T10p (io), B2 IO (io), B3 IO, DIFFIO_T1n (io), B4 IO, DIFFIO_T2n (io), B5 IO, DIFFIO_T3n (io), B6 IO, DIFFIO_T5n (io), B7 IO, DIFFIO_T7p (io), B8 IO, DIFFIO_T8p (io), B9 IO, DIFFIO_T9p (io), B10 IO, DIFFIO_T10n (io), B11 IO, DIFFIO_R1p (io), C5 IO, DIFFIO_T4p (io), C6 IO, DIFFIO_T6p (io), C7 IO, DIFFIO_T5p (io), C10 IO, DIFFIO_R1n (io), C11 IO, DIFFIO_R2p (io), D9 IO, DIFFIO_R3p (io), D10 IO, DIFFIO_R2n (io), D11 IO (io), E10 IO, DIFFIO_R3n (io), E11 IO, DIFFIO_R4p (io), F9 IO (io), F10 IO, CLK2 (io), F11 IO, DIFFIO_R4n (io), G10 IO, DIFFIO_R5p (io), G11 IO, CLK3 (io), H9 IO, DIFFIO_R6n (io), H10 IO, DIFFIO_R6p (io), H11 IO, DIFFIO_R5n (io), J10 IO, DIFFIO_R7n (io), J11 IO, DIFFIO_R7p (io), K11 IO (io)
part C pins: J1 TMS (in), J2 TDI (in), K1 TCK (in), K2 TDO (out)
part D pins: A1 GND (power), C4 VCCIO2 (power), C8 VCCIO2 (power), D5 GND (power), D7 GND (power), E3 VCCIO1 (power), E4 GND (power), E8 GND (power), E9 VCCINT (power), G3 VCCINT (power), G4 GND (power), G8 GND (power), G9 VCCIO2 (power), H5 GND (power), H7 GND (power), J4 VCCIO1 (power), J8 VCCIO1 (power)
part A text: BANK 1
part B text: BANK 2

## 5M160ZM100C5N
designator U?
MAX V 1.8V CPLD, 79 IOs, 160 Logic Elements, 100-Pin MBGA, Commercial Temperature, Speed Grade 5, Pb-Free; DatasheetVersion: ver1.2, May-2011; PackageVersion: ver1.0, Jul-2011; PackageReference: MBGA100_A-120; PackageDescription: 100-Pin Micro FineLine Ball-Grid Array (MBGA100) - Wire Bond - A:1.20; Code_JEDEC: MO-195-AC; ComponentLink1Description: Manufacturer URL; ComponentLink1URL: http://www.altera.com/; ComponentLink2Description: Datasheet; ComponentLink2URL: http://www.altera.com/literature/hb/max-v/max5_handbook.pdf; ComponentLink3Description: MAX V Device Pin-Out files; ComponentLink3URL: http://www.altera.com/literature/lit-dp.jsp?category=MAX%205&showspreadsheet=y; ComponentLink4Description: Package Specification; ComponentLink4URL: http://www.altera.com/devicepackaging/04R00345-01.pdf
footprint MBGA100_A-120 (BGA, 100-Leads, Body 6x6mm, Pitch 0.5mm)
part A pins: B1 IO, DIFFIO_L1p (io), C1 IO, DIFFIO_L2p (io), C2 IO, DIFFIO_L1n (io), D1 IO, DIFFIO_L3n (io), D2 IO, DIFFIO_L3p (io), D3 IO, DIFFIO_L2n (io), E1 IO, CLK1 (io), E2 IO (io), F1 IO (io), F2 IO, CLK0 (io), F3 IO, DIFFIO_L5p (io), G1 IO, DIFFIO_L4p (io), G2 IO, DIFFIO_L4n (io), H1 IO, DIFFIO_L5n (io), H2 IO, DIFFIO_L6n (io), H3 IO, DIFFIO_L6p (io), J5 IO, DIFFIO_B5n (io), J6 IO, DIFFIO_B6n (io), J7 IO, DIFFIO_B6p (io), K3 IO, DIFFIO_B2p (io), K4 IO, DIFFIO_B3p (io), K5 IO, DIFFIO_B4p (io), K6 IO (io), K7 IO, DIFFIO_B7n (io), K8 IO, DEV_CLRn, DIFFIO_B8n (io), K9 IO, DIFFIO_B9n (io), K10 IO, DIFFIO_B10p (io), L1 IO, DIFFIO_B1p (io), L2 IO, DIFFIO_B1n (io), L3 IO, DIFFIO_B2n (io), L4 IO, DIFFIO_B3n (io), L5 IO, DIFFIO_B4n (io), L6 IO, DIFFIO_B5p (io), L7 IO, DIFFIO_B7p (io), L8 IO, DEV_OE, DIFFIO_B8p (io), L9 IO, DIFFIO_B9p (io), L10 IO (io), L11 IO, DIFFIO_B10n (io)
part B pins: A2 IO, DIFFIO_T1p (io), A3 IO, DIFFIO_T2p (io), A4 IO, DIFFIO_T3p (io), A5 IO (io), A6 IO, DIFFIO_T4n (io), A7 IO, DIFFIO_T6n (io), A8 IO, DIFFIO_T7n (io), A9 IO, DIFFIO_T8n (io), A10 IO, DIFFIO_T9n (io), A11 IO, DIFFIO_T10p (io), B2 IO (io), B3 IO, DIFFIO_T1n (io), B4 IO, DIFFIO_T2n (io), B5 IO, DIFFIO_T3n (io), B6 IO, DIFFIO_T5n (io), B7 IO, DIFFIO_T7p (io), B8 IO, DIFFIO_T8p (io), B9 IO, DIFFIO_T9p (io), B10 IO, DIFFIO_T10n (io), B11 IO, DIFFIO_R1p (io), C5 IO, DIFFIO_T4p (io), C6 IO, DIFFIO_T6p (io), C7 IO, DIFFIO_T5p (io), C10 IO, DIFFIO_R1n (io), C11 IO, DIFFIO_R2p (io), D9 IO, DIFFIO_R3p (io), D10 IO, DIFFIO_R2n (io), D11 IO (io), E10 IO, DIFFIO_R3n (io), E11 IO, DIFFIO_R4p (io), F9 IO (io), F10 IO, CLK2 (io), F11 IO, DIFFIO_R4n (io), G10 IO, DIFFIO_R5p (io), G11 IO, CLK3 (io), H9 IO, DIFFIO_R6n (io), H10 IO, DIFFIO_R6p (io), H11 IO, DIFFIO_R5n (io), J10 IO, DIFFIO_R7n (io), J11 IO, DIFFIO_R7p (io), K11 IO (io)
part C pins: J1 TMS (in), J2 TDI (in), K1 TCK (in), K2 TDO (out)
part D pins: A1 GND (power), C4 VCCIO2 (power), C8 VCCIO2 (power), D5 GND (power), D7 GND (power), E3 VCCIO1 (power), E4 GND (power), E8 GND (power), E9 VCCINT (power), G3 VCCINT (power), G4 GND (power), G8 GND (power), G9 VCCIO2 (power), H5 GND (power), H7 GND (power), J4 VCCIO1 (power), J8 VCCIO1 (power)
part A text: BANK 1
part B text: BANK 2

## 5M160ZM100I5
designator U?
MAX V 1.8V CPLD, 79 IOs, 160 Logic Elements, 100-Pin MBGA, Industrial Temperature, Speed Grade 5; DatasheetVersion: ver1.2, May-2011; PackageVersion: ver1.0, Jul-2011; PackageReference: MBGA100_A-120; PackageDescription: 100-Pin Micro FineLine Ball-Grid Array (MBGA100) - Wire Bond - A:1.20; Code_JEDEC: MO-195-AC; ComponentLink1Description: Manufacturer URL; ComponentLink1URL: http://www.altera.com/; ComponentLink2Description: Datasheet; ComponentLink2URL: http://www.altera.com/literature/hb/max-v/max5_handbook.pdf; ComponentLink3Description: MAX V Device Pin-Out files; ComponentLink3URL: http://www.altera.com/literature/lit-dp.jsp?category=MAX%205&showspreadsheet=y; ComponentLink4Description: Package Specification; ComponentLink4URL: http://www.altera.com/devicepackaging/04R00345-01.pdf
footprint MBGA100_A-120 (BGA, 100-Leads, Body 6x6mm, Pitch 0.5mm)
part A pins: B1 IO, DIFFIO_L1p (io), C1 IO, DIFFIO_L2p (io), C2 IO, DIFFIO_L1n (io), D1 IO, DIFFIO_L3n (io), D2 IO, DIFFIO_L3p (io), D3 IO, DIFFIO_L2n (io), E1 IO, CLK1 (io), E2 IO (io), F1 IO (io), F2 IO, CLK0 (io), F3 IO, DIFFIO_L5p (io), G1 IO, DIFFIO_L4p (io), G2 IO, DIFFIO_L4n (io), H1 IO, DIFFIO_L5n (io), H2 IO, DIFFIO_L6n (io), H3 IO, DIFFIO_L6p (io), J5 IO, DIFFIO_B5n (io), J6 IO, DIFFIO_B6n (io), J7 IO, DIFFIO_B6p (io), K3 IO, DIFFIO_B2p (io), K4 IO, DIFFIO_B3p (io), K5 IO, DIFFIO_B4p (io), K6 IO (io), K7 IO, DIFFIO_B7n (io), K8 IO, DEV_CLRn, DIFFIO_B8n (io), K9 IO, DIFFIO_B9n (io), K10 IO, DIFFIO_B10p (io), L1 IO, DIFFIO_B1p (io), L2 IO, DIFFIO_B1n (io), L3 IO, DIFFIO_B2n (io), L4 IO, DIFFIO_B3n (io), L5 IO, DIFFIO_B4n (io), L6 IO, DIFFIO_B5p (io), L7 IO, DIFFIO_B7p (io), L8 IO, DEV_OE, DIFFIO_B8p (io), L9 IO, DIFFIO_B9p (io), L10 IO (io), L11 IO, DIFFIO_B10n (io)
part B pins: A2 IO, DIFFIO_T1p (io), A3 IO, DIFFIO_T2p (io), A4 IO, DIFFIO_T3p (io), A5 IO (io), A6 IO, DIFFIO_T4n (io), A7 IO, DIFFIO_T6n (io), A8 IO, DIFFIO_T7n (io), A9 IO, DIFFIO_T8n (io), A10 IO, DIFFIO_T9n (io), A11 IO, DIFFIO_T10p (io), B2 IO (io), B3 IO, DIFFIO_T1n (io), B4 IO, DIFFIO_T2n (io), B5 IO, DIFFIO_T3n (io), B6 IO, DIFFIO_T5n (io), B7 IO, DIFFIO_T7p (io), B8 IO, DIFFIO_T8p (io), B9 IO, DIFFIO_T9p (io), B10 IO, DIFFIO_T10n (io), B11 IO, DIFFIO_R1p (io), C5 IO, DIFFIO_T4p (io), C6 IO, DIFFIO_T6p (io), C7 IO, DIFFIO_T5p (io), C10 IO, DIFFIO_R1n (io), C11 IO, DIFFIO_R2p (io), D9 IO, DIFFIO_R3p (io), D10 IO, DIFFIO_R2n (io), D11 IO (io), E10 IO, DIFFIO_R3n (io), E11 IO, DIFFIO_R4p (io), F9 IO (io), F10 IO, CLK2 (io), F11 IO, DIFFIO_R4n (io), G10 IO, DIFFIO_R5p (io), G11 IO, CLK3 (io), H9 IO, DIFFIO_R6n (io), H10 IO, DIFFIO_R6p (io), H11 IO, DIFFIO_R5n (io), J10 IO, DIFFIO_R7n (io), J11 IO, DIFFIO_R7p (io), K11 IO (io)
part C pins: J1 TMS (in), J2 TDI (in), K1 TCK (in), K2 TDO (out)
part D pins: A1 GND (power), C4 VCCIO2 (power), C8 VCCIO2 (power), D5 GND (power), D7 GND (power), E3 VCCIO1 (power), E4 GND (power), E8 GND (power), E9 VCCINT (power), G3 VCCINT (power), G4 GND (power), G8 GND (power), G9 VCCIO2 (power), H5 GND (power), H7 GND (power), J4 VCCIO1 (power), J8 VCCIO1 (power)
part A text: BANK 1
part B text: BANK 2

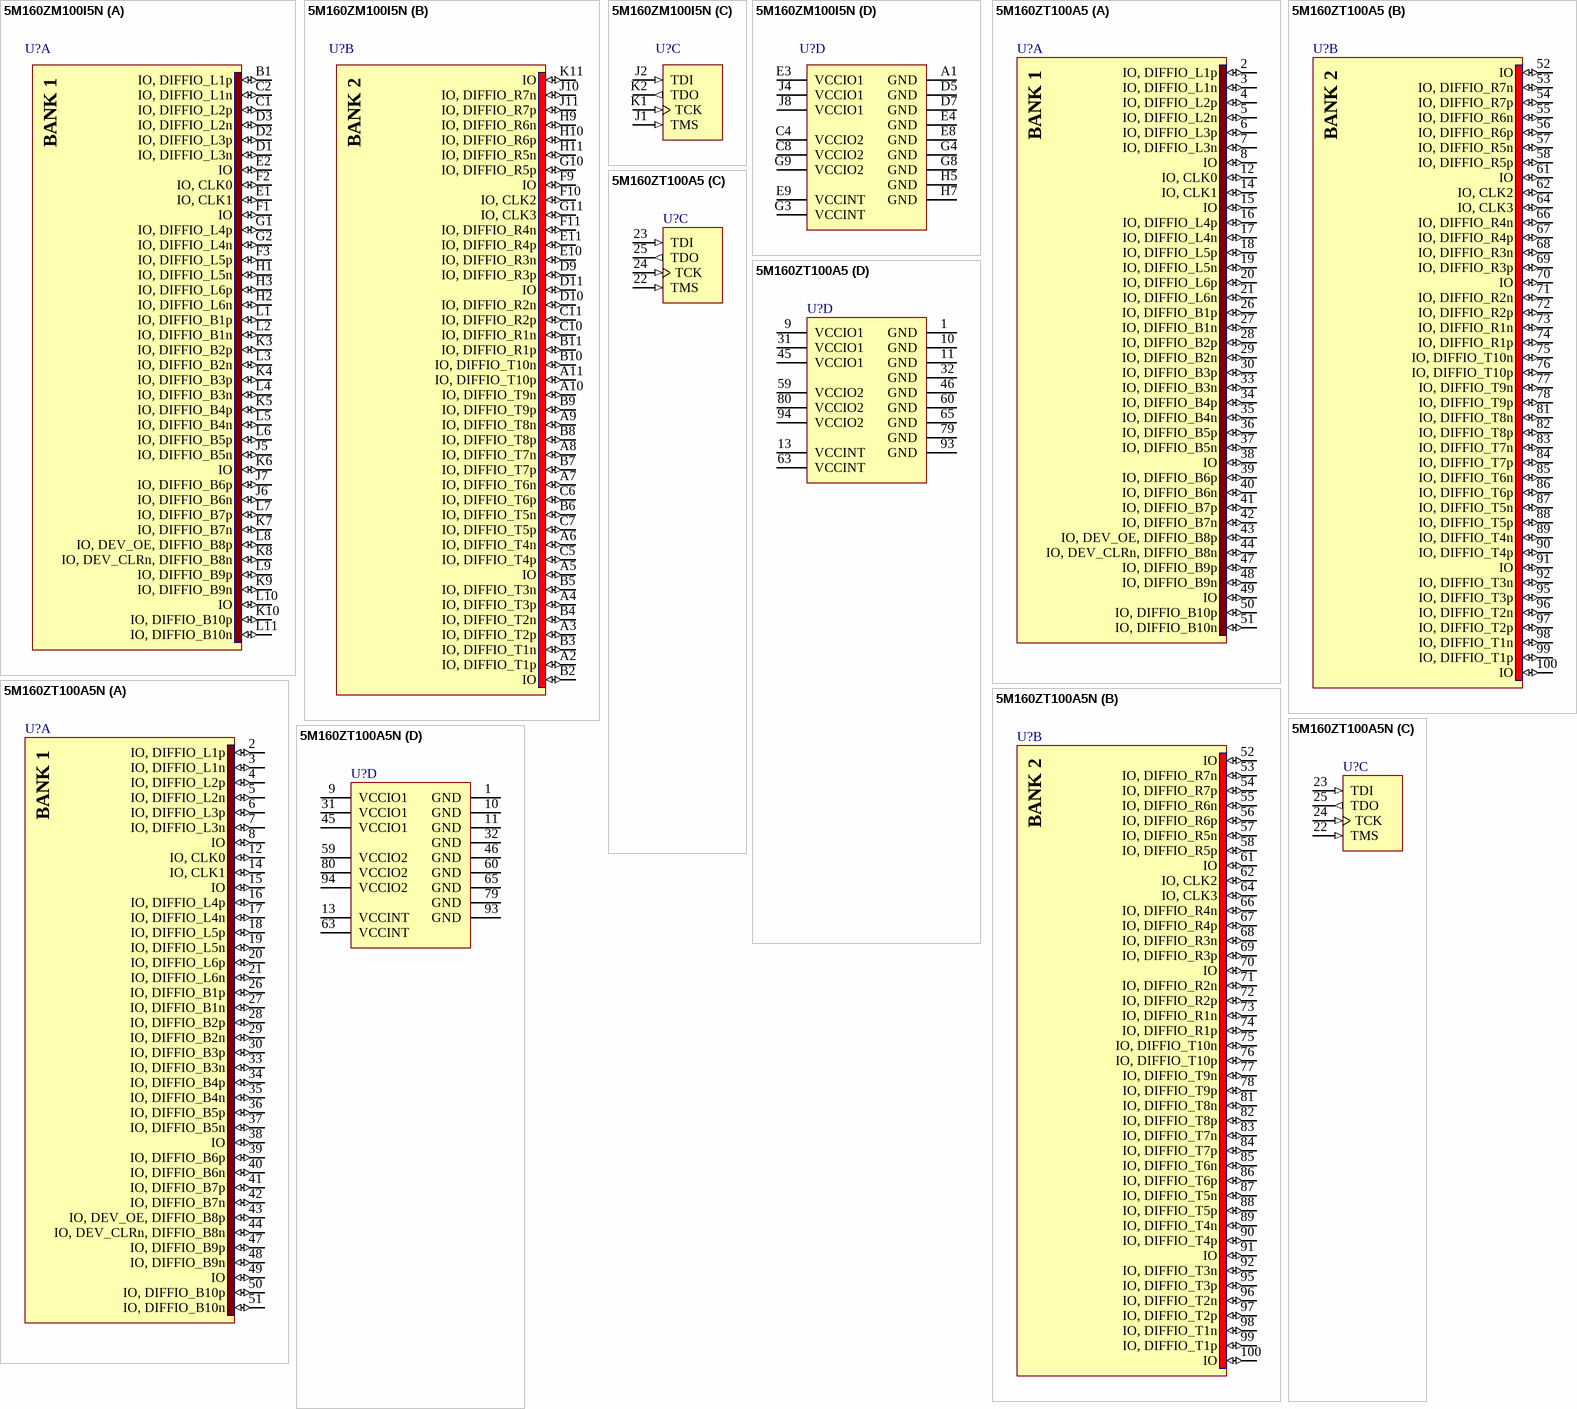
[diagram p16: symbols 5M160ZM100I5N to 5M160ZT100A5N]

## 5M160ZM100I5N
designator U?
MAX V 1.8V CPLD, 79 IOs, 160 Logic Elements, 100-Pin MBGA, Industrial Temperature, Speed Grade 5, Pb-Free; DatasheetVersion: ver1.2, May-2011; PackageVersion: ver1.0, Jul-2011; PackageReference: MBGA100_A-120; PackageDescription: 100-Pin Micro FineLine Ball-Grid Array (MBGA100) - Wire Bond - A:1.20; Code_JEDEC: MO-195-AC; ComponentLink1Description: Manufacturer URL; ComponentLink1URL: http://www.altera.com/; ComponentLink2Description: Datasheet; ComponentLink2URL: http://www.altera.com/literature/hb/max-v/max5_handbook.pdf; ComponentLink3Description: MAX V Device Pin-Out files; ComponentLink3URL: http://www.altera.com/literature/lit-dp.jsp?category=MAX%205&showspreadsheet=y; ComponentLink4Description: Package Specification; ComponentLink4URL: http://www.altera.com/devicepackaging/04R00345-01.pdf
footprint MBGA100_A-120 (BGA, 100-Leads, Body 6x6mm, Pitch 0.5mm)
part A pins: B1 IO, DIFFIO_L1p (io), C1 IO, DIFFIO_L2p (io), C2 IO, DIFFIO_L1n (io), D1 IO, DIFFIO_L3n (io), D2 IO, DIFFIO_L3p (io), D3 IO, DIFFIO_L2n (io), E1 IO, CLK1 (io), E2 IO (io), F1 IO (io), F2 IO, CLK0 (io), F3 IO, DIFFIO_L5p (io), G1 IO, DIFFIO_L4p (io), G2 IO, DIFFIO_L4n (io), H1 IO, DIFFIO_L5n (io), H2 IO, DIFFIO_L6n (io), H3 IO, DIFFIO_L6p (io), J5 IO, DIFFIO_B5n (io), J6 IO, DIFFIO_B6n (io), J7 IO, DIFFIO_B6p (io), K3 IO, DIFFIO_B2p (io), K4 IO, DIFFIO_B3p (io), K5 IO, DIFFIO_B4p (io), K6 IO (io), K7 IO, DIFFIO_B7n (io), K8 IO, DEV_CLRn, DIFFIO_B8n (io), K9 IO, DIFFIO_B9n (io), K10 IO, DIFFIO_B10p (io), L1 IO, DIFFIO_B1p (io), L2 IO, DIFFIO_B1n (io), L3 IO, DIFFIO_B2n (io), L4 IO, DIFFIO_B3n (io), L5 IO, DIFFIO_B4n (io), L6 IO, DIFFIO_B5p (io), L7 IO, DIFFIO_B7p (io), L8 IO, DEV_OE, DIFFIO_B8p (io), L9 IO, DIFFIO_B9p (io), L10 IO (io), L11 IO, DIFFIO_B10n (io)
part B pins: A2 IO, DIFFIO_T1p (io), A3 IO, DIFFIO_T2p (io), A4 IO, DIFFIO_T3p (io), A5 IO (io), A6 IO, DIFFIO_T4n (io), A7 IO, DIFFIO_T6n (io), A8 IO, DIFFIO_T7n (io), A9 IO, DIFFIO_T8n (io), A10 IO, DIFFIO_T9n (io), A11 IO, DIFFIO_T10p (io), B2 IO (io), B3 IO, DIFFIO_T1n (io), B4 IO, DIFFIO_T2n (io), B5 IO, DIFFIO_T3n (io), B6 IO, DIFFIO_T5n (io), B7 IO, DIFFIO_T7p (io), B8 IO, DIFFIO_T8p (io), B9 IO, DIFFIO_T9p (io), B10 IO, DIFFIO_T10n (io), B11 IO, DIFFIO_R1p (io), C5 IO, DIFFIO_T4p (io), C6 IO, DIFFIO_T6p (io), C7 IO, DIFFIO_T5p (io), C10 IO, DIFFIO_R1n (io), C11 IO, DIFFIO_R2p (io), D9 IO, DIFFIO_R3p (io), D10 IO, DIFFIO_R2n (io), D11 IO (io), E10 IO, DIFFIO_R3n (io), E11 IO, DIFFIO_R4p (io), F9 IO (io), F10 IO, CLK2 (io), F11 IO, DIFFIO_R4n (io), G10 IO, DIFFIO_R5p (io), G11 IO, CLK3 (io), H9 IO, DIFFIO_R6n (io), H10 IO, DIFFIO_R6p (io), H11 IO, DIFFIO_R5n (io), J10 IO, DIFFIO_R7n (io), J11 IO, DIFFIO_R7p (io), K11 IO (io)
part C pins: J1 TMS (in), J2 TDI (in), K1 TCK (in), K2 TDO (out)
part D pins: A1 GND (power), C4 VCCIO2 (power), C8 VCCIO2 (power), D5 GND (power), D7 GND (power), E3 VCCIO1 (power), E4 GND (power), E8 GND (power), E9 VCCINT (power), G3 VCCINT (power), G4 GND (power), G8 GND (power), G9 VCCIO2 (power), H5 GND (power), H7 GND (power), J4 VCCIO1 (power), J8 VCCIO1 (power)
part A text: BANK 1
part B text: BANK 2

## 5M160ZT100A5
designator U?
MAX V 1.8V CPLD, 79 IOs, 160 Logic Elements, 100-Pin TQFP, Automotive Temperature, Speed Grade 5; DatasheetVersion: ver1.2, May-2011; PackageVersion: ver1.0, Jul-2011; PackageReference: TQFP100_A-120; PackageDescription: 100-Pin Plastic Thin Quad Flat Pack (TQFP) - Wire Bond - A:1.20; Code_JEDEC: MS-029-AED; ComponentLink1Description: Manufacturer URL; ComponentLink1URL: http://www.altera.com/; ComponentLink2Description: Datasheet; ComponentLink2URL: http://www.altera.com/literature/hb/max-v/max5_handbook.pdf; ComponentLink3Description: MAX V Device Pin-Out files; ComponentLink3URL: http://www.altera.com/literature/lit-dp.jsp?category=MAX%205&showspreadsheet=y; ComponentLink4Description: Package Specification; ComponentLink4URL: http://www.altera.com/devicepackaging/04R00365-01.pdf
footprint TQFP100_A-120_N (Thin QFP, 100-Leads, Body 14x14mm, Pitch 0.5mm, IPC Medium Density)
footprint TQFP100_A-120_L (Thin QFP, 100-Leads, Body 14x14mm, Pitch 0.5mm, IPC High Density)
footprint TQFP100_A-120_M (Thin QFP, 100-Leads, Body 14x14mm, Pitch 0.5mm, IPC Low Density)
part A pins: 2 IO, DIFFIO_L1p (io), 3 IO, DIFFIO_L1n (io), 4 IO, DIFFIO_L2p (io), 5 IO, DIFFIO_L2n (io), 6 IO, DIFFIO_L3p (io), 7 IO, DIFFIO_L3n (io), 8 IO (io), 12 IO, CLK0 (io), 14 IO, CLK1 (io), 15 IO (io), 16 IO, DIFFIO_L4p (io), 17 IO, DIFFIO_L4n (io), 18 IO, DIFFIO_L5p (io), 19 IO, DIFFIO_L5n (io), 20 IO, DIFFIO_L6p (io), 21 IO, DIFFIO_L6n (io), 26 IO, DIFFIO_B1p (io), 27 IO, DIFFIO_B1n (io), 28 IO, DIFFIO_B2p (io), 29 IO, DIFFIO_B2n (io), 30 IO, DIFFIO_B3p (io), 33 IO, DIFFIO_B3n (io), 34 IO, DIFFIO_B4p (io), 35 IO, DIFFIO_B4n (io), 36 IO, DIFFIO_B5p (io), 37 IO, DIFFIO_B5n (io), 38 IO (io), 39 IO, DIFFIO_B6p (io), 40 IO, DIFFIO_B6n (io), 41 IO, DIFFIO_B7p (io), 42 IO, DIFFIO_B7n (io), 43 IO, DEV_OE, DIFFIO_B8p (io), 44 IO, DEV_CLRn, DIFFIO_B8n (io), 47 IO, DIFFIO_B9p (io), 48 IO, DIFFIO_B9n (io), 49 IO (io), 50 IO, DIFFIO_B10p (io), 51 IO, DIFFIO_B10n (io)
part B pins: 52 IO (io), 53 IO, DIFFIO_R7n (io), 54 IO, DIFFIO_R7p (io), 55 IO, DIFFIO_R6n (io), 56 IO, DIFFIO_R6p (io), 57 IO, DIFFIO_R5n (io), 58 IO, DIFFIO_R5p (io), 61 IO (io), 62 IO, CLK2 (io), 64 IO, CLK3 (io), 66 IO, DIFFIO_R4n (io), 67 IO, DIFFIO_R4p (io), 68 IO, DIFFIO_R3n (io), 69 IO, DIFFIO_R3p (io), 70 IO (io), 71 IO, DIFFIO_R2n (io), 72 IO, DIFFIO_R2p (io), 73 IO, DIFFIO_R1n (io), 74 IO, DIFFIO_R1p (io), 75 IO, DIFFIO_T10n (io), 76 IO, DIFFIO_T10p (io), 77 IO, DIFFIO_T9n (io), 78 IO, DIFFIO_T9p (io), 81 IO, DIFFIO_T8n (io), 82 IO, DIFFIO_T8p (io), 83 IO, DIFFIO_T7n (io), 84 IO, DIFFIO_T7p (io), 85 IO, DIFFIO_T6n (io), 86 IO, DIFFIO_T6p (io), 87 IO, DIFFIO_T5n (io), 88 IO, DIFFIO_T5p (io), 89 IO, DIFFIO_T4n (io), 90 IO, DIFFIO_T4p (io), 91 IO (io), 92 IO, DIFFIO_T3n (io), 95 IO, DIFFIO_T3p (io), 96 IO, DIFFIO_T2n (io), 97 IO, DIFFIO_T2p (io), 98 IO, DIFFIO_T1n (io), 99 IO, DIFFIO_T1p (io), 100 IO (io)
part C pins: 22 TMS (in), 23 TDI (in), 24 TCK (in), 25 TDO (out)
part D pins: 1 GND (power), 9 VCCIO1 (power), 10 GND (power), 11 GND (power), 13 VCCINT (power), 31 VCCIO1 (power), 32 GND (power), 45 VCCIO1 (power), 46 GND (power), 59 VCCIO2 (power), 60 GND (power), 63 VCCINT (power), 65 GND (power), 79 GND (power), 80 VCCIO2 (power), 93 GND (power), 94 VCCIO2 (power)
part A text: BANK 1
part B text: BANK 2

## 5M160ZT100A5N
designator U?
MAX V 1.8V CPLD, 79 IOs, 160 Logic Elements, 100-Pin TQFP, Automotive Temperature, Speed Grade 5, Pb-Free; DatasheetVersion: ver1.2, May-2011; PackageVersion: ver1.0, Jul-2011; PackageReference: TQFP100_A-120; PackageDescription: 100-Pin Plastic Thin Quad Flat Pack (TQFP) - Wire Bond - A:1.20; Code_JEDEC: MS-029-AED; ComponentLink1Description: Manufacturer URL; ComponentLink1URL: http://www.altera.com/; ComponentLink2Description: Datasheet; ComponentLink2URL: http://www.altera.com/literature/hb/max-v/max5_handbook.pdf; ComponentLink3Description: MAX V Device Pin-Out files; ComponentLink3URL: http://www.altera.com/literature/lit-dp.jsp?category=MAX%205&showspreadsheet=y; ComponentLink4Description: Package Specification; ComponentLink4URL: http://www.altera.com/devicepackaging/04R00365-01.pdf
footprint TQFP100_A-120_N (Thin QFP, 100-Leads, Body 14x14mm, Pitch 0.5mm, IPC Medium Density)
footprint TQFP100_A-120_L (Thin QFP, 100-Leads, Body 14x14mm, Pitch 0.5mm, IPC High Density)
footprint TQFP100_A-120_M (Thin QFP, 100-Leads, Body 14x14mm, Pitch 0.5mm, IPC Low Density)
part A pins: 2 IO, DIFFIO_L1p (io), 3 IO, DIFFIO_L1n (io), 4 IO, DIFFIO_L2p (io), 5 IO, DIFFIO_L2n (io), 6 IO, DIFFIO_L3p (io), 7 IO, DIFFIO_L3n (io), 8 IO (io), 12 IO, CLK0 (io), 14 IO, CLK1 (io), 15 IO (io), 16 IO, DIFFIO_L4p (io), 17 IO, DIFFIO_L4n (io), 18 IO, DIFFIO_L5p (io), 19 IO, DIFFIO_L5n (io), 20 IO, DIFFIO_L6p (io), 21 IO, DIFFIO_L6n (io), 26 IO, DIFFIO_B1p (io), 27 IO, DIFFIO_B1n (io), 28 IO, DIFFIO_B2p (io), 29 IO, DIFFIO_B2n (io), 30 IO, DIFFIO_B3p (io), 33 IO, DIFFIO_B3n (io), 34 IO, DIFFIO_B4p (io), 35 IO, DIFFIO_B4n (io), 36 IO, DIFFIO_B5p (io), 37 IO, DIFFIO_B5n (io), 38 IO (io), 39 IO, DIFFIO_B6p (io), 40 IO, DIFFIO_B6n (io), 41 IO, DIFFIO_B7p (io), 42 IO, DIFFIO_B7n (io), 43 IO, DEV_OE, DIFFIO_B8p (io), 44 IO, DEV_CLRn, DIFFIO_B8n (io), 47 IO, DIFFIO_B9p (io), 48 IO, DIFFIO_B9n (io), 49 IO (io), 50 IO, DIFFIO_B10p (io), 51 IO, DIFFIO_B10n (io)
part B pins: 52 IO (io), 53 IO, DIFFIO_R7n (io), 54 IO, DIFFIO_R7p (io), 55 IO, DIFFIO_R6n (io), 56 IO, DIFFIO_R6p (io), 57 IO, DIFFIO_R5n (io), 58 IO, DIFFIO_R5p (io), 61 IO (io), 62 IO, CLK2 (io), 64 IO, CLK3 (io), 66 IO, DIFFIO_R4n (io), 67 IO, DIFFIO_R4p (io), 68 IO, DIFFIO_R3n (io), 69 IO, DIFFIO_R3p (io), 70 IO (io), 71 IO, DIFFIO_R2n (io), 72 IO, DIFFIO_R2p (io), 73 IO, DIFFIO_R1n (io), 74 IO, DIFFIO_R1p (io), 75 IO, DIFFIO_T10n (io), 76 IO, DIFFIO_T10p (io), 77 IO, DIFFIO_T9n (io), 78 IO, DIFFIO_T9p (io), 81 IO, DIFFIO_T8n (io), 82 IO, DIFFIO_T8p (io), 83 IO, DIFFIO_T7n (io), 84 IO, DIFFIO_T7p (io), 85 IO, DIFFIO_T6n (io), 86 IO, DIFFIO_T6p (io), 87 IO, DIFFIO_T5n (io), 88 IO, DIFFIO_T5p (io), 89 IO, DIFFIO_T4n (io), 90 IO, DIFFIO_T4p (io), 91 IO (io), 92 IO, DIFFIO_T3n (io), 95 IO, DIFFIO_T3p (io), 96 IO, DIFFIO_T2n (io), 97 IO, DIFFIO_T2p (io), 98 IO, DIFFIO_T1n (io), 99 IO, DIFFIO_T1p (io), 100 IO (io)
part C pins: 22 TMS (in), 23 TDI (in), 24 TCK (in), 25 TDO (out)
part D pins: 1 GND (power), 9 VCCIO1 (power), 10 GND (power), 11 GND (power), 13 VCCINT (power), 31 VCCIO1 (power), 32 GND (power), 45 VCCIO1 (power), 46 GND (power), 59 VCCIO2 (power), 60 GND (power), 63 VCCINT (power), 65 GND (power), 79 GND (power), 80 VCCIO2 (power), 93 GND (power), 94 VCCIO2 (power)
part A text: BANK 1
part B text: BANK 2

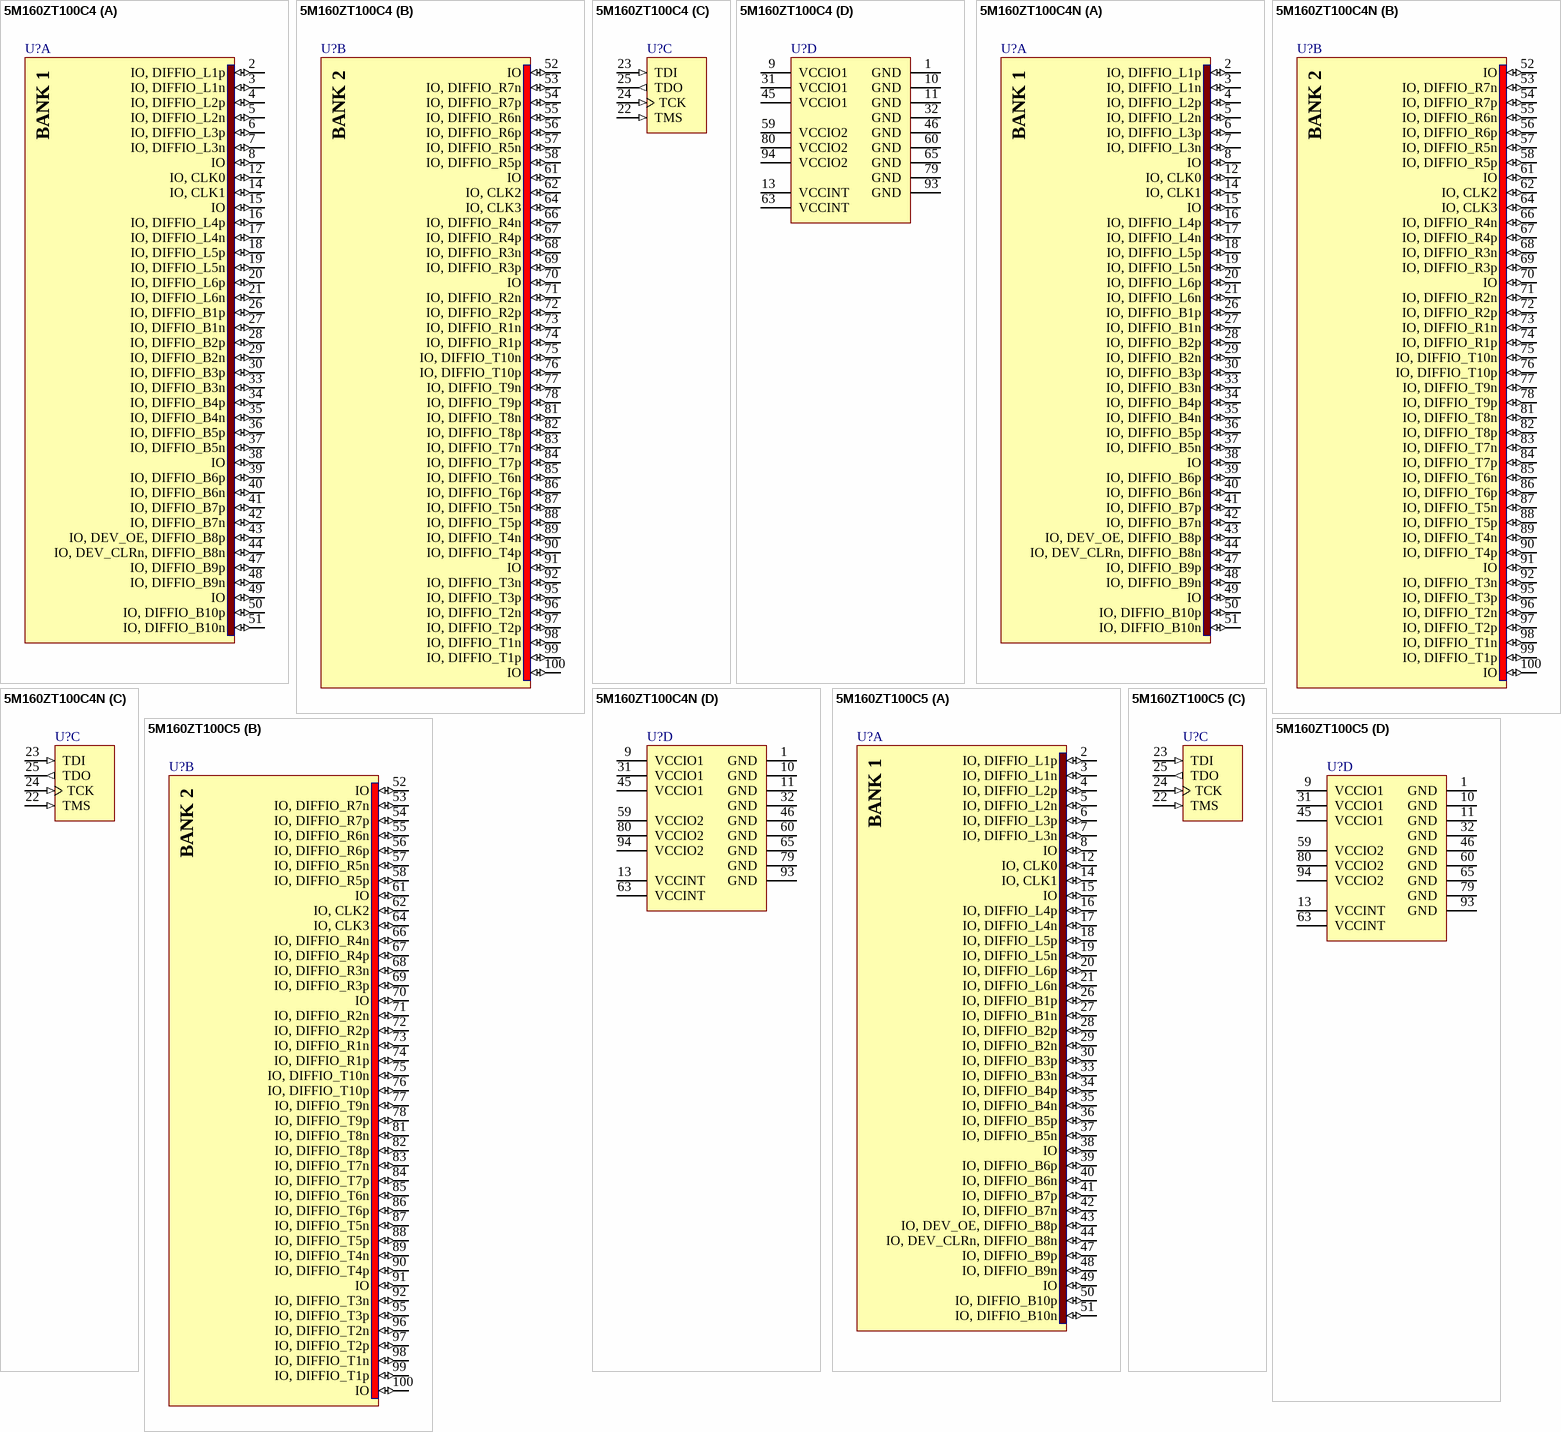
[diagram p17: symbols 5M160ZT100C4 to 5M160ZT100C5]

## 5M160ZT100C4
designator U?
MAX V 1.8V CPLD, 79 IOs, 160 Logic Elements, 100-Pin TQFP, Commercial Temperature, Speed Grade 4; DatasheetVersion: ver1.2, May-2011; PackageVersion: ver1.0, Jul-2011; PackageReference: TQFP100_A-120; PackageDescription: 100-Pin Plastic Thin Quad Flat Pack (TQFP) - Wire Bond - A:1.20; Code_JEDEC: MS-029-AED; ComponentLink1Description: Manufacturer URL; ComponentLink1URL: http://www.altera.com/; ComponentLink2Description: Datasheet; ComponentLink2URL: http://www.altera.com/literature/hb/max-v/max5_handbook.pdf; ComponentLink3Description: MAX V Device Pin-Out files; ComponentLink3URL: http://www.altera.com/literature/lit-dp.jsp?category=MAX%205&showspreadsheet=y; ComponentLink4Description: Package Specification; ComponentLink4URL: http://www.altera.com/devicepackaging/04R00365-01.pdf
footprint TQFP100_A-120_N (Thin QFP, 100-Leads, Body 14x14mm, Pitch 0.5mm, IPC Medium Density)
footprint TQFP100_A-120_L (Thin QFP, 100-Leads, Body 14x14mm, Pitch 0.5mm, IPC High Density)
footprint TQFP100_A-120_M (Thin QFP, 100-Leads, Body 14x14mm, Pitch 0.5mm, IPC Low Density)
part A pins: 2 IO, DIFFIO_L1p (io), 3 IO, DIFFIO_L1n (io), 4 IO, DIFFIO_L2p (io), 5 IO, DIFFIO_L2n (io), 6 IO, DIFFIO_L3p (io), 7 IO, DIFFIO_L3n (io), 8 IO (io), 12 IO, CLK0 (io), 14 IO, CLK1 (io), 15 IO (io), 16 IO, DIFFIO_L4p (io), 17 IO, DIFFIO_L4n (io), 18 IO, DIFFIO_L5p (io), 19 IO, DIFFIO_L5n (io), 20 IO, DIFFIO_L6p (io), 21 IO, DIFFIO_L6n (io), 26 IO, DIFFIO_B1p (io), 27 IO, DIFFIO_B1n (io), 28 IO, DIFFIO_B2p (io), 29 IO, DIFFIO_B2n (io), 30 IO, DIFFIO_B3p (io), 33 IO, DIFFIO_B3n (io), 34 IO, DIFFIO_B4p (io), 35 IO, DIFFIO_B4n (io), 36 IO, DIFFIO_B5p (io), 37 IO, DIFFIO_B5n (io), 38 IO (io), 39 IO, DIFFIO_B6p (io), 40 IO, DIFFIO_B6n (io), 41 IO, DIFFIO_B7p (io), 42 IO, DIFFIO_B7n (io), 43 IO, DEV_OE, DIFFIO_B8p (io), 44 IO, DEV_CLRn, DIFFIO_B8n (io), 47 IO, DIFFIO_B9p (io), 48 IO, DIFFIO_B9n (io), 49 IO (io), 50 IO, DIFFIO_B10p (io), 51 IO, DIFFIO_B10n (io)
part B pins: 52 IO (io), 53 IO, DIFFIO_R7n (io), 54 IO, DIFFIO_R7p (io), 55 IO, DIFFIO_R6n (io), 56 IO, DIFFIO_R6p (io), 57 IO, DIFFIO_R5n (io), 58 IO, DIFFIO_R5p (io), 61 IO (io), 62 IO, CLK2 (io), 64 IO, CLK3 (io), 66 IO, DIFFIO_R4n (io), 67 IO, DIFFIO_R4p (io), 68 IO, DIFFIO_R3n (io), 69 IO, DIFFIO_R3p (io), 70 IO (io), 71 IO, DIFFIO_R2n (io), 72 IO, DIFFIO_R2p (io), 73 IO, DIFFIO_R1n (io), 74 IO, DIFFIO_R1p (io), 75 IO, DIFFIO_T10n (io), 76 IO, DIFFIO_T10p (io), 77 IO, DIFFIO_T9n (io), 78 IO, DIFFIO_T9p (io), 81 IO, DIFFIO_T8n (io), 82 IO, DIFFIO_T8p (io), 83 IO, DIFFIO_T7n (io), 84 IO, DIFFIO_T7p (io), 85 IO, DIFFIO_T6n (io), 86 IO, DIFFIO_T6p (io), 87 IO, DIFFIO_T5n (io), 88 IO, DIFFIO_T5p (io), 89 IO, DIFFIO_T4n (io), 90 IO, DIFFIO_T4p (io), 91 IO (io), 92 IO, DIFFIO_T3n (io), 95 IO, DIFFIO_T3p (io), 96 IO, DIFFIO_T2n (io), 97 IO, DIFFIO_T2p (io), 98 IO, DIFFIO_T1n (io), 99 IO, DIFFIO_T1p (io), 100 IO (io)
part C pins: 22 TMS (in), 23 TDI (in), 24 TCK (in), 25 TDO (out)
part D pins: 1 GND (power), 9 VCCIO1 (power), 10 GND (power), 11 GND (power), 13 VCCINT (power), 31 VCCIO1 (power), 32 GND (power), 45 VCCIO1 (power), 46 GND (power), 59 VCCIO2 (power), 60 GND (power), 63 VCCINT (power), 65 GND (power), 79 GND (power), 80 VCCIO2 (power), 93 GND (power), 94 VCCIO2 (power)
part A text: BANK 1
part B text: BANK 2